# Altium schematic symbol library MU_MP_39_V1.SCHLIB: 148 symbols (part 1 of 2)
Pins are listed as number, name and electrical type; pins without a type are passive.

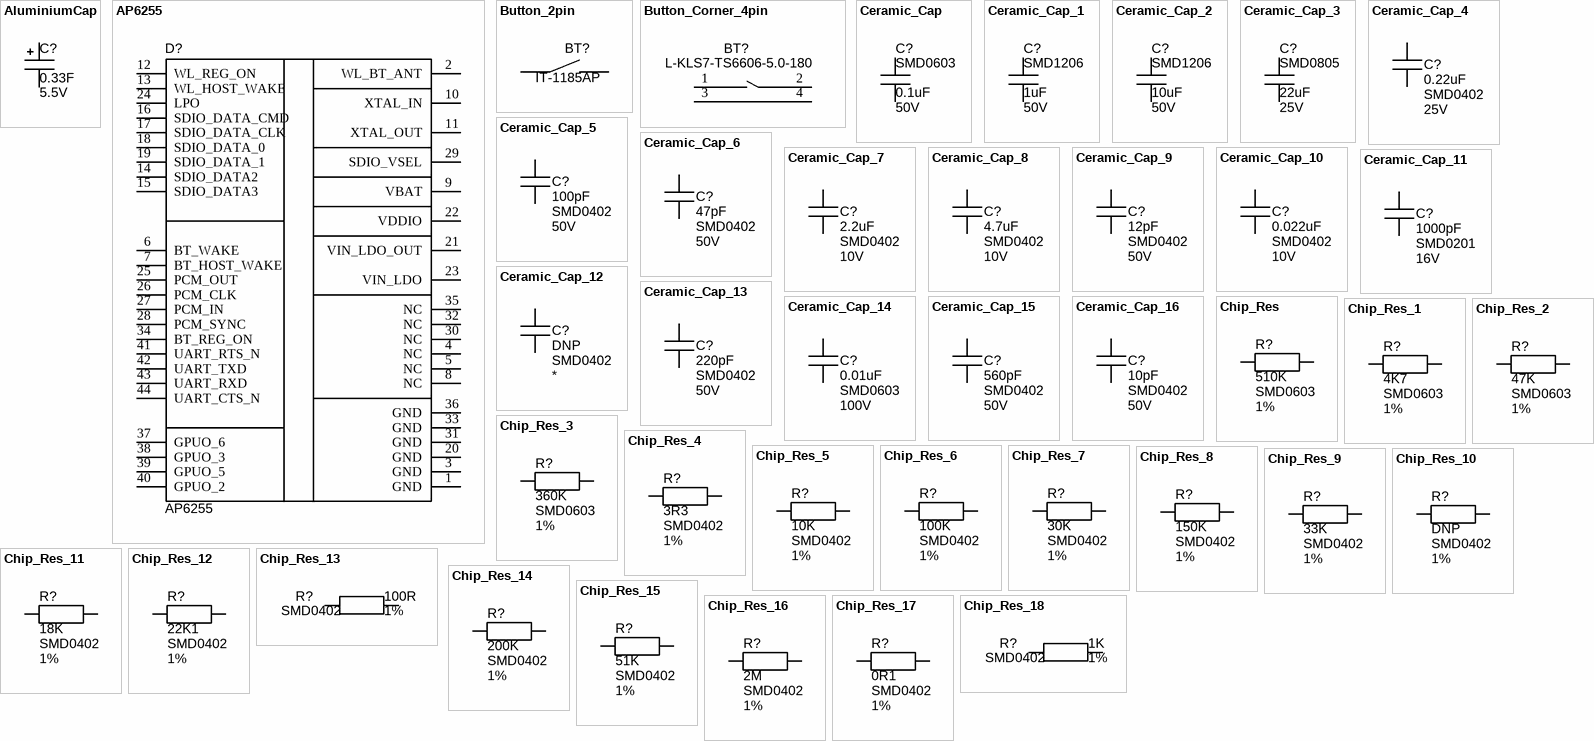
[diagram p0: symbols AluminiumCap to Chip_Res_18]

## AluminiumCap
designator C?, comment Voltage: 5.5V  (hidden comment: 0.33F)
PartNumber: DCS5R5334HF; Tolerance: ±20%; Manufacturer: *; Package: DCS5R5_H; ComponentType: *; ClassName: *; Value: 0.33F
footprint CAP: D5C2H11
footprint CAP: D6.3C2.5H11
footprint CAP: D6.3C2.5H16
footprint CAP: D8C3.5H12
footprint CAP: D10C5H12.5
footprint CAP: D10C5H16
footprint CAP: D10C5H20
footprint CAP: D13C5H20
footprint CAP: D13C5H25
footprint CAP: D16C7.5H25
footprint CAP: D16C7.5H31.5
footprint CAP: D18C7.5H40
footprint CAP: D22C10H25
footprint CAP: D25C10H50
footprint CAP: D30C10H37
footprint CAP: D30C10.5H47
footprint CAP: D35C10H40
footprint CAP: D35C10.5H50
footprint CAP: D18C7.5H25
footprint DCS5R5_H
pins: 1 (power), 2 (power)

## AP6255
designator D?
ComponentType: SMD Chip Resistor; Manufacter: *; Voltage: *; ClassName: *; Tolerance: *; PartNumber: AP6255; Package: AP6255; Value: AP6255
footprint AP6255
pins: 1 GND, 2 WL_BT_ANT, 3 GND, 4 NC, 5 NC, 6 BT_WAKE, 7 BT_HOST_WAKE, 8 NC, 9 VBAT, 10 XTAL_IN, 11 XTAL_OUT, 12 WL_REG_ON, 13 WL_HOST_WAKE, 14 SDIO_DATA2, 15 SDIO_DATA3, 16 SDIO_DATA_CMD, 17 SDIO_DATA_CLK, 18 SDIO_DATA_0, 19 SDIO_DATA_1, 20 GND, 21 VIN_LDO_OUT, 22 VDDIO, 23 VIN_LDO, 24 LPO, 25 PCM_OUT, 26 PCM_CLK, 27 PCM_IN, 28 PCM_SYNC, 29 SDIO_VSEL, 30 NC, 31 GND, 32 NC, 33 GND, 34 BT_REG_ON, 35 NC, 36 GND, 37 GPUO_6, 38 GPUO_3, 39 GPUO_5, 40 GPUO_2, 41 UART_RTS_N, 42 UART_TXD, 43 UART_RXD, 44 UART_CTS_N

## Button_2pin
designator BT?, comment IT-1185AP
ComponentType: *; Manufacter: *; Package: IT-1185AP; PartNumber: IT-1185AP; ClassName: *; Value: IT-1185AP
footprint IT-1185AP (Tact switch 3x5 mm)
pins: 1, 2

## Button_Corner_4pin
designator BT?, comment L-KLS7-TS6606-5.0-180
ComponentType: *; Manufacter: *; Package: L-KLS7-TS6606-5.0-180; PartNumber: L-KLS7-TS6606-5.0-180; ClassName: *; Value: L-KLS7-TS6606-5.0-180
footprint L-KLS7-TS6606-5.0-180
pins: 1, 2, 3, 4

## Ceramic_Cap
designator C?, comment Package: SMD0603  Voltage: 50V  (hidden comment: 0.1uF)
PartNumber: CC0603KRX7R9BB104; ComponentType: SMD Ceramic Chip Capacitor; Manufacter: *; Tolerance: *; ClassName: *; Value: 0.1uF
footprint CAP_SMD_0603
footprint CAP_SMD_0805
footprint CAP_SMD_1206
pins: 1 (power), 2 (power)

## Ceramic_Cap_1
designator C?, comment Package: SMD1206  Voltage: 50V  (hidden comment: 1uF)
PartNumber: CC1206MRY5V9BB105; ComponentType: SMD Ceramic Chip Capacitor; Manufacter: *; Tolerance: *; ClassName: *; Value: 1uF
footprint CAP_SMD_0603
footprint CAP_SMD_0805
footprint CAP_SMD_1206
pins: 1 (power), 2 (power)

## Ceramic_Cap_2
designator C?, comment Package: SMD1206  Voltage: 50V  (hidden comment: 10uF)
PartNumber: CL31B106KBHNNNE; ComponentType: SMD Ceramic Chip Capacitor; Manufacter: *; Tolerance: *; ClassName: *; Value: 10uF
footprint CAP_SMD_0603
footprint CAP_SMD_0805
footprint CAP_SMD_1206
pins: 1 (power), 2 (power)

## Ceramic_Cap_3
designator C?, comment Package: SMD0805  Voltage: 25V  (hidden comment: 22uF)
PartNumber: CC0805MKX5R8BB226; ComponentType: SMD Ceramic Chip Capacitor; Manufacter: *; Tolerance: *; ClassName: *; Value: 22uF
footprint CAP_SMD_0603
footprint CAP_SMD_0805
footprint CAP_SMD_1206
pins: 1 (power), 2 (power)

## Ceramic_Cap_4
designator C?, comment Package: SMD0402  Voltage: 25V  (hidden comment: 0.22uF)
PartNumber: CC0402KRX5R8BB224; ComponentType: SMD Ceramic Chip Capacitor; Manufacter: *; Tolerance: *; ClassName: *; Value: 0.22uF
footprint CAP_SMD_0603
footprint CAP_SMD_0805
footprint CAP_SMD_1206
footprint CAP_SMD_0402
pins: 1 (power), 2 (power)

## Ceramic_Cap_5
designator C?, comment Package: SMD0402  Voltage: 50V  (hidden comment: 100pF)
PartNumber: CC0402KRNPO9BN101; ComponentType: SMD Ceramic Chip Capacitor; Manufacter: *; Tolerance: *; ClassName: *; Value: 100pF
footprint CAP_SMD_0603
footprint CAP_SMD_0805
footprint CAP_SMD_1206
footprint CAP_SMD_0402
pins: 1 (power), 2 (power)

## Ceramic_Cap_6
designator C?, comment Package: SMD0402  Voltage: 50V  (hidden comment: 47pF)
PartNumber: CC0402FRNPO9BN470; ComponentType: SMD Ceramic Chip Capacitor; Manufacter: *; Tolerance: *; ClassName: *; Value: 47pF
footprint CAP_SMD_0603
footprint CAP_SMD_0805
footprint CAP_SMD_1206
footprint CAP_SMD_0402
pins: 1 (power), 2 (power)

## Ceramic_Cap_7
designator C?, comment Package: SMD0402  Voltage: 10V  (hidden comment: 2.2uF)
PartNumber: CC0402KRX5R6BB225; ComponentType: SMD Ceramic Chip Capacitor; Manufacter: *; Tolerance: *; ClassName: *; Value: 2.2uF
footprint CAP_SMD_0603
footprint CAP_SMD_0805
footprint CAP_SMD_1206
footprint CAP_SMD_0402
pins: 1 (power), 2 (power)

## Ceramic_Cap_8
designator C?, comment Package: SMD0402  Voltage: 10V  (hidden comment: 4.7uF)
PartNumber: CL05A475KP5NRNC; ComponentType: SMD Ceramic Chip Capacitor; Manufacter: *; Tolerance: *; ClassName: *; Value: 4.7uF
footprint CAP_SMD_0603
footprint CAP_SMD_0805
footprint CAP_SMD_1206
footprint CAP_SMD_0402
pins: 1 (power), 2 (power)

## Ceramic_Cap_9
designator C?, comment Package: SMD0402  Voltage: 50V  (hidden comment: 12pF)
PartNumber: CC0402JRNPO9BN120; ComponentType: SMD Ceramic Chip Capacitor; Manufacter: *; Tolerance: *; ClassName: *; Value: 12pF
footprint CAP_SMD_0603
footprint CAP_SMD_0805
footprint CAP_SMD_1206
footprint CAP_SMD_0402
pins: 1 (power), 2 (power)

## Ceramic_Cap_10
designator C?, comment Package: SMD0402  Voltage: 10V  (hidden comment: 0.022uF)
PartNumber: GRM155R61A223KA01D; ComponentType: SMD Ceramic Chip Capacitor; Manufacter: *; Tolerance: *; ClassName: *; Value: 0.022uF
footprint CAP_SMD_0603
footprint CAP_SMD_0805
footprint CAP_SMD_1206
footprint CAP_SMD_0402
pins: 1 (power), 2 (power)

## Ceramic_Cap_11
designator C?, comment Package: SMD0201  Voltage: 16V  (hidden comment: 1000pF)
PartNumber: CC0201KRX7R7BB102; ComponentType: SMD Ceramic Chip Capacitor; Manufacter: *; Tolerance: *; ClassName: *; Value: 1000pF
footprint CAP_SMD_0603
footprint CAP_SMD_0805
footprint CAP_SMD_1206
footprint CAP_SMD_0402
footprint CAP_SMD_0201
pins: 1 (power), 2 (power)

## Ceramic_Cap_12
designator C?, comment Package: SMD0402  (hidden comment: DNP)
PartNumber: Do Not Place; ComponentType: SMD Ceramic Chip Capacitor; Manufacter: *; Tolerance: *; ClassName: Solder_Clearence; Value: DNP; Voltage: *
footprint CAP_SMD_0603
footprint CAP_SMD_0805
footprint CAP_SMD_1206
footprint CAP_SMD_0402
footprint CAP_SMD_0402_small
pins: 1 (power), 2 (power)

## Ceramic_Cap_13
designator C?, comment Package: SMD0402  Voltage: 50V  (hidden comment: 220pF)
PartNumber: CC0402JRNPO9BN221; ComponentType: SMD Ceramic Chip Capacitor; Manufacter: *; Tolerance: *; ClassName: *; Value: 220pF
footprint CAP_SMD_0603
footprint CAP_SMD_0805
footprint CAP_SMD_1206
footprint CAP_SMD_0402
pins: 1 (power), 2 (power)

## Ceramic_Cap_14
designator C?, comment Package: SMD0603  Voltage: 100V  (hidden comment: 0.01uF)
PartNumber: CC0603KRX7R0BB103; ComponentType: SMD Ceramic Chip Capacitor; Manufacter: *; Tolerance: *; ClassName: *; Value: 0.01uF
footprint CAP_SMD_0603
footprint CAP_SMD_0805
footprint CAP_SMD_1206
pins: 1 (power), 2 (power)

## Ceramic_Cap_15
designator C?, comment Package: SMD0402  Voltage: 50V  (hidden comment: 560pF)
PartNumber: CC0402JRX7R9BB561; ComponentType: SMD Ceramic Chip Capacitor; Manufacter: *; Tolerance: *; ClassName: *; Value: 560pF
footprint CAP_SMD_0603
footprint CAP_SMD_0805
footprint CAP_SMD_1206
footprint CAP_SMD_0402
pins: 1 (power), 2 (power)

## Ceramic_Cap_16
designator C?, comment Package: SMD0402  Voltage: 50V  (hidden comment: 10pF)
PartNumber: CC0402CRNPO9BN100; ComponentType: SMD Ceramic Chip Capacitor; Manufacter: *; Tolerance: *; ClassName: *; Value: 10pF
footprint CAP_SMD_0603
footprint CAP_SMD_0805
footprint CAP_SMD_1206
footprint CAP_SMD_0402
pins: 1 (power), 2 (power)

## Chip_Res
designator R?, comment Package: SMD0603  Tolerance: 1%  (hidden comment: 510K)
PartNumber: RC0603FR-07510KL; ComponentType: SMD Chip Resistor; Manufacter: *; Voltage: *; ClassName: *; Value: 510K
footprint RES_SMD_0603
footprint RES_SMD_0805
footprint RES_SMD_1206
footprint RES_SMD_2512
footprint RES_SMD_0402
pins: 1, 2

## Chip_Res_1
designator R?, comment Package: SMD0603  Tolerance: 1%  (hidden comment: 4K7)
PartNumber: RC0603FR-074K7L; ComponentType: SMD Chip Resistor; Manufacter: *; Voltage: *; ClassName: *; Value: 4K7
footprint RES_SMD_0603
footprint RES_SMD_0805
footprint RES_SMD_1206
footprint RES_SMD_2512
footprint RES_SMD_0402
pins: 1, 2

## Chip_Res_2
designator R?, comment Package: SMD0603  Tolerance: 1%  (hidden comment: 47K)
PartNumber: RC0603FR-0747KL; ComponentType: SMD Chip Resistor; Manufacter: *; Voltage: *; ClassName: *; Value: 47K
footprint RES_SMD_0603
footprint RES_SMD_0805
footprint RES_SMD_1206
footprint RES_SMD_2512
footprint RES_SMD_0402
pins: 1, 2

## Chip_Res_3
designator R?, comment Package: SMD0603  Tolerance: 1%  (hidden comment: 360K)
PartNumber: RC0603FR-07360KL; ComponentType: SMD Chip Resistor; Manufacter: *; Voltage: *; ClassName: *; Value: 360K
footprint RES_SMD_0603
footprint RES_SMD_0805
footprint RES_SMD_1206
footprint RES_SMD_2512
footprint RES_SMD_0402
pins: 1, 2

## Chip_Res_4
designator R?, comment Package: SMD0402  Tolerance: 1%  (hidden comment: 3R3)
PartNumber: RC0402FR-073R3L; ComponentType: SMD Chip Resistor; Manufacter: *; Voltage: *; ClassName: *; Value: 3R3
footprint RES_SMD_0603
footprint RES_SMD_0805
footprint RES_SMD_1206
footprint RES_SMD_2512
footprint RES_SMD_0402
pins: 1, 2

## Chip_Res_5
designator R?, comment Package: SMD0402  Tolerance: 1%  (hidden comment: 10K)
PartNumber: RC0402FR-0710KL; ComponentType: SMD Chip Resistor; Manufacter: *; Voltage: *; ClassName: *; Value: 10K
footprint RES_SMD_0603
footprint RES_SMD_0805
footprint RES_SMD_1206
footprint RES_SMD_2512
footprint RES_SMD_0402
pins: 1, 2

## Chip_Res_6
designator R?, comment Package: SMD0402  Tolerance: 1%  (hidden comment: 100K)
PartNumber: RC0402FR-07100KL; ComponentType: SMD Chip Resistor; Manufacter: *; Voltage: *; ClassName: *; Value: 100K
footprint RES_SMD_0603
footprint RES_SMD_0805
footprint RES_SMD_1206
footprint RES_SMD_2512
footprint RES_SMD_0402
pins: 1, 2

## Chip_Res_7
designator R?, comment Package: SMD0402  Tolerance: 1%  (hidden comment: 30K)
PartNumber: RC0402FR-0730KL; ComponentType: SMD Chip Resistor; Manufacter: *; Voltage: *; ClassName: *; Value: 30K
footprint RES_SMD_0603
footprint RES_SMD_0805
footprint RES_SMD_1206
footprint RES_SMD_2512
footprint RES_SMD_0402
pins: 1, 2

## Chip_Res_8
designator R?, comment Package: SMD0402  Tolerance: 1%  (hidden comment: 150K)
PartNumber: RC0402FR-07150KL; ComponentType: SMD Chip Resistor; Manufacter: *; Voltage: *; ClassName: *; Value: 150K
footprint RES_SMD_0603
footprint RES_SMD_0805
footprint RES_SMD_1206
footprint RES_SMD_2512
footprint RES_SMD_0402
pins: 1, 2

## Chip_Res_9
designator R?, comment Package: SMD0402  Tolerance: 1%  (hidden comment: 33K)
PartNumber: RC0402FR-0733KL; ComponentType: SMD Chip Resistor; Manufacter: *; Voltage: *; ClassName: *; Value: 33K
footprint RES_SMD_0603
footprint RES_SMD_0805
footprint RES_SMD_1206
footprint RES_SMD_2512
footprint RES_SMD_0402
pins: 1, 2

## Chip_Res_10
designator R?, comment Package: SMD0402  Tolerance: 1%  (hidden comment: DNP)
PartNumber: Do Not Place; ComponentType: SMD Chip Resistor; Manufacter: *; Voltage: *; ClassName: *; Value: DNP
footprint RES_SMD_0603
footprint RES_SMD_0805
footprint RES_SMD_1206
footprint RES_SMD_2512
footprint RES_SMD_0402
pins: 1, 2

## Chip_Res_11
designator R?, comment Package: SMD0402  Tolerance: 1%  (hidden comment: 18K)
PartNumber: RC0402FR-0718KL; ComponentType: SMD Chip Resistor; Manufacter: *; Voltage: *; ClassName: *; Value: 18K
footprint RES_SMD_0603
footprint RES_SMD_0805
footprint RES_SMD_1206
footprint RES_SMD_2512
footprint RES_SMD_0402
pins: 1, 2

## Chip_Res_12
designator R?, comment Package: SMD0402  Tolerance: 1%  (hidden comment: 22K1)
PartNumber: RC0402FR-0722K1L; ComponentType: SMD Chip Resistor; Manufacter: *; Voltage: *; ClassName: *; Value: 22K1
footprint RES_SMD_0603
footprint RES_SMD_0805
footprint RES_SMD_1206
footprint RES_SMD_2512
footprint RES_SMD_0402
pins: 1, 2

## Chip_Res_13
designator R?, comment Package: SMD0402  Tolerance: 1%  (hidden comment: 100R)
PartNumber: RC0402FR-07100RL; ComponentType: SMD Chip Resistor; Manufacter: *; Voltage: *; ClassName: *; Value: 100R
footprint RES_SMD_0603
footprint RES_SMD_0805
footprint RES_SMD_1206
footprint RES_SMD_2512
footprint RES_SMD_0402
pins: 1, 2

## Chip_Res_14
designator R?, comment Package: SMD0402  Tolerance: 1%  (hidden comment: 200K)
PartNumber: RC0402FR-07200KL; ComponentType: SMD Chip Resistor; Manufacter: *; Voltage: *; ClassName: *; Value: 200K
footprint RES_SMD_0603
footprint RES_SMD_0805
footprint RES_SMD_1206
footprint RES_SMD_2512
footprint RES_SMD_0402
pins: 1, 2

## Chip_Res_15
designator R?, comment Package: SMD0402  Tolerance: 1%  (hidden comment: 51K)
PartNumber: RC0402FR-0751KL; ComponentType: SMD Chip Resistor; Manufacter: *; Voltage: *; ClassName: *; Value: 51K
footprint RES_SMD_0603
footprint RES_SMD_0805
footprint RES_SMD_1206
footprint RES_SMD_2512
footprint RES_SMD_0402
pins: 1, 2

## Chip_Res_16
designator R?, comment Package: SMD0402  Tolerance: 1%  (hidden comment: 2M)
PartNumber: RC0402FR-072ML; ComponentType: SMD Chip Resistor; Manufacter: *; Voltage: *; ClassName: *; Value: 2M
footprint RES_SMD_0603
footprint RES_SMD_0805
footprint RES_SMD_1206
footprint RES_SMD_2512
footprint RES_SMD_0402
pins: 1, 2

## Chip_Res_17
designator R?, comment Package: SMD0402  Tolerance: 1%  (hidden comment: 0R1)
PartNumber: RL0402FR-070R1L; ComponentType: SMD Chip Resistor; Manufacter: *; Voltage: *; ClassName: *; Value: 0R1
footprint RES_SMD_0603
footprint RES_SMD_0805
footprint RES_SMD_1206
footprint RES_SMD_2512
footprint RES_SMD_0402
pins: 1, 2

## Chip_Res_18
designator R?, comment Package: SMD0402  Tolerance: 1%  (hidden comment: 1K)
PartNumber: RC0402FR-071KL; ComponentType: SMD Chip Resistor; Manufacter: *; Voltage: *; ClassName: *; Value: 1K
footprint RES_SMD_0603
footprint RES_SMD_0805
footprint RES_SMD_1206
footprint RES_SMD_2512
footprint RES_SMD_0402
pins: 1, 2

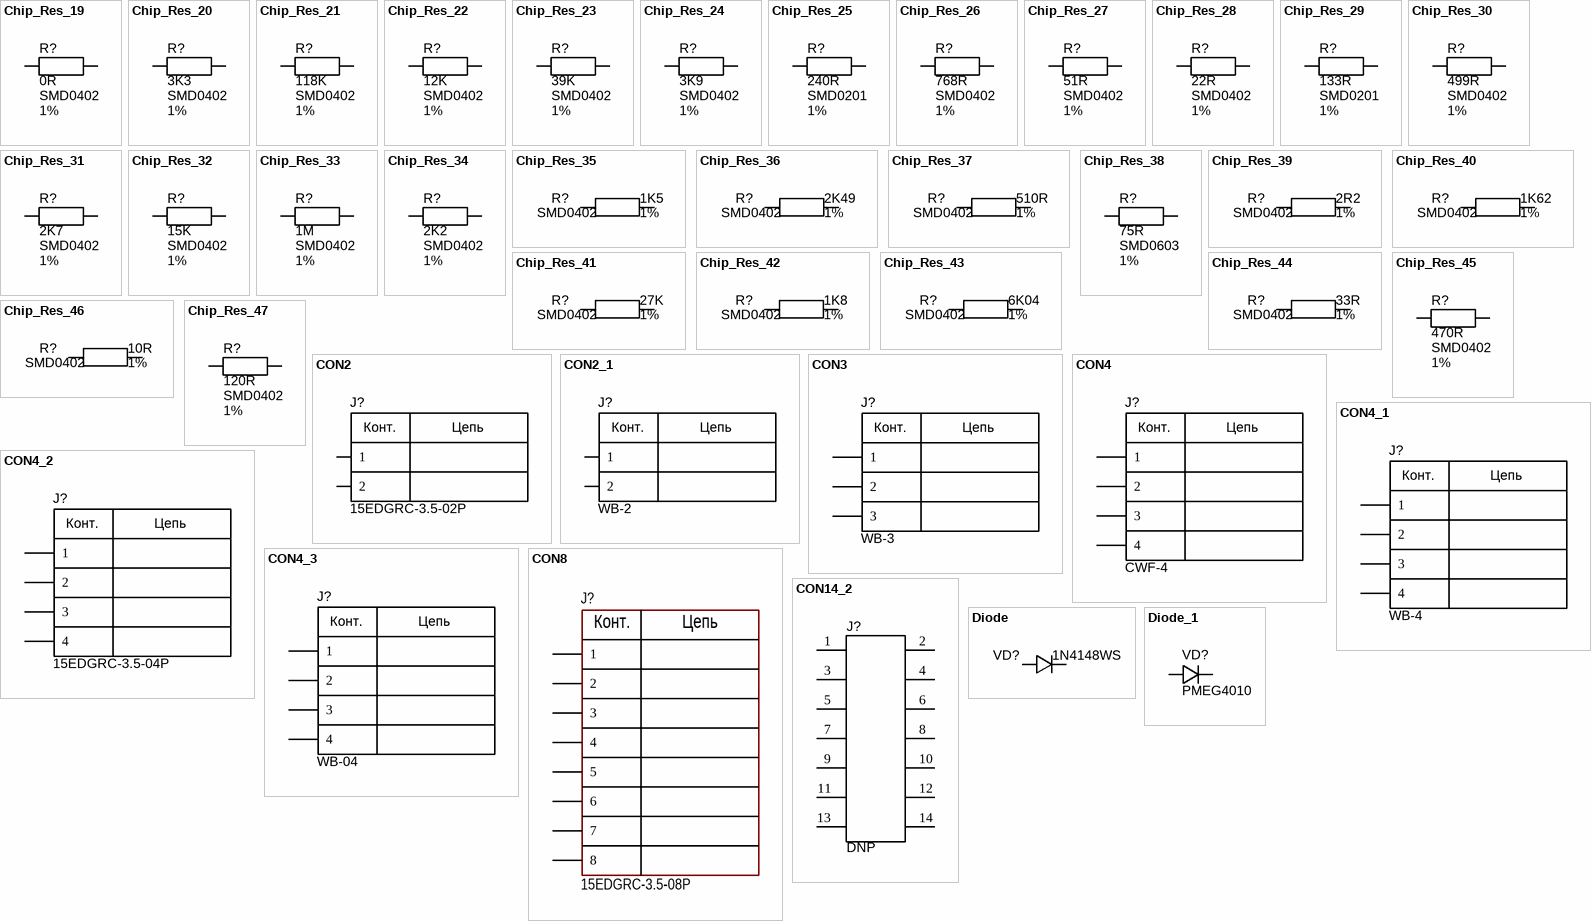
[diagram p1: symbols Chip_Res_19 to Diode_1]

## Chip_Res_19
designator R?, comment Package: SMD0402  Tolerance: 1%  (hidden comment: 0R)
PartNumber: RC0402FR-070RL; ComponentType: SMD Chip Resistor; Manufacter: *; Voltage: *; ClassName: *; Value: 0R
footprint RES_SMD_0603
footprint RES_SMD_0805
footprint RES_SMD_1206
footprint RES_SMD_2512
footprint RES_SMD_0402
pins: 1, 2

## Chip_Res_20
designator R?, comment Package: SMD0402  Tolerance: 1%  (hidden comment: 3K3)
PartNumber: RC0402FR-073K3L; ComponentType: SMD Chip Resistor; Manufacter: *; Voltage: *; ClassName: *; Value: 3K3
footprint RES_SMD_0603
footprint RES_SMD_0805
footprint RES_SMD_1206
footprint RES_SMD_2512
footprint RES_SMD_0402
pins: 1, 2

## Chip_Res_21
designator R?, comment Package: SMD0402  Tolerance: 1%  (hidden comment: 118K)
PartNumber: RC0402FR-07118KL; ComponentType: SMD Chip Resistor; Manufacter: *; Voltage: *; ClassName: *; Value: 118K
footprint RES_SMD_0603
footprint RES_SMD_0805
footprint RES_SMD_1206
footprint RES_SMD_2512
footprint RES_SMD_0402
pins: 1, 2

## Chip_Res_22
designator R?, comment Package: SMD0402  Tolerance: 1%  (hidden comment: 12K)
PartNumber: RC0402FR-0712KL; ComponentType: SMD Chip Resistor; Manufacter: *; Voltage: *; ClassName: *; Value: 12K
footprint RES_SMD_0603
footprint RES_SMD_0805
footprint RES_SMD_1206
footprint RES_SMD_2512
footprint RES_SMD_0402
pins: 1, 2

## Chip_Res_23
designator R?, comment Package: SMD0402  Tolerance: 1%  (hidden comment: 39K)
PartNumber: RC0402FR-0739KL; ComponentType: SMD Chip Resistor; Manufacter: *; Voltage: *; ClassName: *; Value: 39K
footprint RES_SMD_0603
footprint RES_SMD_0805
footprint RES_SMD_1206
footprint RES_SMD_2512
footprint RES_SMD_0402
pins: 1, 2

## Chip_Res_24
designator R?, comment Package: SMD0402  Tolerance: 1%  (hidden comment: 3K9)
PartNumber: RC0402FR-073K9L; ComponentType: SMD Chip Resistor; Manufacter: *; Voltage: *; ClassName: *; Value: 3K9
footprint RES_SMD_0603
footprint RES_SMD_0805
footprint RES_SMD_1206
footprint RES_SMD_2512
footprint RES_SMD_0402
pins: 1, 2

## Chip_Res_25
designator R?, comment Package: SMD0201  Tolerance: 1%  (hidden comment: 240R)
PartNumber: RC0201FR-07240RL; ComponentType: SMD Chip Resistor; Manufacter: *; Voltage: *; ClassName: *; Value: 240R
footprint RES_SMD_0603
footprint RES_SMD_0805
footprint RES_SMD_1206
footprint RES_SMD_2512
footprint RES_SMD_0402
footprint RES_SMD_0201
pins: 1, 2

## Chip_Res_26
designator R?, comment Package: SMD0402  Tolerance: 1%  (hidden comment: 768R)
PartNumber: RC0402FR-07768RL; ComponentType: SMD Chip Resistor; Manufacter: *; Voltage: *; ClassName: Solder_Clearence; Value: 768R
footprint RES_SMD_0603
footprint RES_SMD_0805
footprint RES_SMD_1206
footprint RES_SMD_2512
footprint RES_SMD_0402
footprint RES_SMD_0402_SMALL
pins: 1, 2

## Chip_Res_27
designator R?, comment Package: SMD0402  Tolerance: 1%  (hidden comment: 51R)
PartNumber: RC0402FR-0751RL; ComponentType: SMD Chip Resistor; Manufacter: *; Voltage: *; ClassName: Solder_Clearence; Value: 51R
footprint RES_SMD_0603
footprint RES_SMD_0805
footprint RES_SMD_1206
footprint RES_SMD_2512
footprint RES_SMD_0402
footprint RES_SMD_0402_SMALL
pins: 1, 2

## Chip_Res_28
designator R?, comment Package: SMD0402  Tolerance: 1%  (hidden comment: 22R)
PartNumber: RC0402FR-0722RL; ComponentType: SMD Chip Resistor; Manufacter: *; Voltage: *; ClassName: Solder_Clearence; Value: 22R
footprint RES_SMD_0603
footprint RES_SMD_0805
footprint RES_SMD_1206
footprint RES_SMD_2512
footprint RES_SMD_0402
footprint RES_SMD_0402_SMALL
pins: 1, 2

## Chip_Res_29
designator R?, comment Package: SMD0201  Tolerance: 1%  (hidden comment: 133R)
PartNumber: RC0201FR-07133RL; ComponentType: SMD Chip Resistor; Manufacter: *; Voltage: *; ClassName: *; Value: 133R
footprint RES_SMD_0603
footprint RES_SMD_0805
footprint RES_SMD_1206
footprint RES_SMD_2512
footprint RES_SMD_0402
footprint RES_SMD_0201
pins: 1, 2

## Chip_Res_30
designator R?, comment Package: SMD0402  Tolerance: 1%  (hidden comment: 499R)
PartNumber: RC0402FR-07499RL; ComponentType: SMD Chip Resistor; Manufacter: *; Voltage: *; ClassName: Solder_Clearence; Value: 499R
footprint RES_SMD_0603
footprint RES_SMD_0805
footprint RES_SMD_1206
footprint RES_SMD_2512
footprint RES_SMD_0402
footprint RES_SMD_0402_SMALL
pins: 1, 2

## Chip_Res_31
designator R?, comment Package: SMD0402  Tolerance: 1%  (hidden comment: 2K7)
PartNumber: RC0402FR-072K7L; ComponentType: SMD Chip Resistor; Manufacter: *; Voltage: *; ClassName: *; Value: 2K7
footprint RES_SMD_0603
footprint RES_SMD_0805
footprint RES_SMD_1206
footprint RES_SMD_2512
footprint RES_SMD_0402
pins: 1, 2

## Chip_Res_32
designator R?, comment Package: SMD0402  Tolerance: 1%  (hidden comment: 15K)
PartNumber: RC0402FR-0715KL; ComponentType: SMD Chip Resistor; Manufacter: *; Voltage: *; ClassName: *; Value: 15K
footprint RES_SMD_0603
footprint RES_SMD_0805
footprint RES_SMD_1206
footprint RES_SMD_2512
footprint RES_SMD_0402
pins: 1, 2

## Chip_Res_33
designator R?, comment Package: SMD0402  Tolerance: 1%  (hidden comment: 1M)
PartNumber: RC0402FR-071ML; ComponentType: SMD Chip Resistor; Manufacter: *; Voltage: *; ClassName: *; Value: 1M
footprint RES_SMD_0603
footprint RES_SMD_0805
footprint RES_SMD_1206
footprint RES_SMD_2512
footprint RES_SMD_0402
pins: 1, 2

## Chip_Res_34
designator R?, comment Package: SMD0402  Tolerance: 1%  (hidden comment: 2K2)
PartNumber: RC0402FR-072K2L; ComponentType: SMD Chip Resistor; Manufacter: *; Voltage: *; ClassName: *; Value: 2K2
footprint RES_SMD_0603
footprint RES_SMD_0805
footprint RES_SMD_1206
footprint RES_SMD_2512
footprint RES_SMD_0402
pins: 1, 2

## Chip_Res_35
designator R?, comment Package: SMD0402  Tolerance: 1%  (hidden comment: 1K5)
PartNumber: RC0402FR-071K5L; ComponentType: SMD Chip Resistor; Manufacter: *; Voltage: *; ClassName: *; Value: 1K5
footprint RES_SMD_0603
footprint RES_SMD_0805
footprint RES_SMD_1206
footprint RES_SMD_2512
footprint RES_SMD_0402
pins: 1, 2

## Chip_Res_36
designator R?, comment Package: SMD0402  Tolerance: 1%  (hidden comment: 2K49)
PartNumber: RC0402FR-072K49L; ComponentType: SMD Chip Resistor; Manufacter: *; Voltage: *; ClassName: *; Value: 2K49
footprint RES_SMD_0603
footprint RES_SMD_0805
footprint RES_SMD_1206
footprint RES_SMD_2512
footprint RES_SMD_0402
pins: 1, 2

## Chip_Res_37
designator R?, comment Package: SMD0402  Tolerance: 1%  (hidden comment: 510R)
PartNumber: RC0402FR-07510RL; ComponentType: SMD Chip Resistor; Manufacter: *; Voltage: *; ClassName: *; Value: 510R
footprint RES_SMD_0603
footprint RES_SMD_0805
footprint RES_SMD_1206
footprint RES_SMD_2512
footprint RES_SMD_0402
pins: 1, 2

## Chip_Res_38
designator R?, comment Package: SMD0603  Tolerance: 1%  (hidden comment: 75R)
PartNumber: RC0603FR-0775RL; ComponentType: SMD Chip Resistor; Manufacter: *; Voltage: *; ClassName: *; Value: 75R
footprint RES_SMD_0603
footprint RES_SMD_0805
footprint RES_SMD_1206
footprint RES_SMD_2512
footprint RES_SMD_0402
pins: 1, 2

## Chip_Res_39
designator R?, comment Package: SMD0402  Tolerance: 1%  (hidden comment: 2R2)
PartNumber: RC0402FR-072R2L; ComponentType: SMD Chip Resistor; Manufacter: *; Voltage: *; ClassName: *; Value: 2R2
footprint RES_SMD_0603
footprint RES_SMD_0805
footprint RES_SMD_1206
footprint RES_SMD_2512
footprint RES_SMD_0402
pins: 1, 2

## Chip_Res_40
designator R?, comment Package: SMD0402  Tolerance: 1%  (hidden comment: 1K62)
PartNumber: RC0402FR-071K62L; ComponentType: SMD Chip Resistor; Manufacter: *; Voltage: *; ClassName: Solder_Clearence; Value: 1K62
footprint RES_SMD_0603
footprint RES_SMD_0805
footprint RES_SMD_1206
footprint RES_SMD_2512
footprint RES_SMD_0402
footprint RES_SMD_0402_SMALL
pins: 1, 2

## Chip_Res_41
designator R?, comment Package: SMD0402  Tolerance: 1%  (hidden comment: 27K)
PartNumber: RC0402FR-0727KL; ComponentType: SMD Chip Resistor; Manufacter: *; Voltage: *; ClassName: *; Value: 27K
footprint RES_SMD_0603
footprint RES_SMD_0805
footprint RES_SMD_1206
footprint RES_SMD_2512
footprint RES_SMD_0402
pins: 1, 2

## Chip_Res_42
designator R?, comment Package: SMD0402  Tolerance: 1%  (hidden comment: 1K8)
PartNumber: RC0402FR-071K8L; ComponentType: SMD Chip Resistor; Manufacter: *; Voltage: *; ClassName: *; Value: 1K8
footprint RES_SMD_0603
footprint RES_SMD_0805
footprint RES_SMD_1206
footprint RES_SMD_2512
footprint RES_SMD_0402
pins: 1, 2

## Chip_Res_43
designator R?, comment Package: SMD0402  Tolerance: 1%  (hidden comment: 6K04)
PartNumber: RC0402FR-076K04L; ComponentType: SMD Chip Resistor; Manufacter: *; Voltage: *; ClassName: *; Value: 6K04
footprint RES_SMD_0603
footprint RES_SMD_0805
footprint RES_SMD_1206
footprint RES_SMD_2512
footprint RES_SMD_0402
pins: 1, 2

## Chip_Res_44
designator R?, comment Package: SMD0402  Tolerance: 1%  (hidden comment: 33R)
PartNumber: RC0402FR-0733RL; ComponentType: SMD Chip Resistor; Manufacter: *; Voltage: *; ClassName: *; Value: 33R
footprint RES_SMD_0603
footprint RES_SMD_0805
footprint RES_SMD_1206
footprint RES_SMD_2512
footprint RES_SMD_0402
pins: 1, 2

## Chip_Res_45
designator R?, comment Package: SMD0402  Tolerance: 1%  (hidden comment: 470R)
PartNumber: RC0402FR-07470RL; ComponentType: SMD Chip Resistor; Manufacter: *; Voltage: *; ClassName: *; Value: 470R
footprint RES_SMD_0603
footprint RES_SMD_0805
footprint RES_SMD_1206
footprint RES_SMD_2512
footprint RES_SMD_0402
pins: 1, 2

## Chip_Res_46
designator R?, comment Package: SMD0402  Tolerance: 1%  (hidden comment: 10R)
PartNumber: RC0402FR-0710RL; ComponentType: SMD Chip Resistor; Manufacter: *; Voltage: *; ClassName: *; Value: 10R
footprint RES_SMD_0603
footprint RES_SMD_0805
footprint RES_SMD_1206
footprint RES_SMD_2512
footprint RES_SMD_0402
pins: 1, 2

## Chip_Res_47
designator R?, comment Package: SMD0402  Tolerance: 1%  (hidden comment: 120R)
PartNumber: RC0402FR-07120RL; ComponentType: SMD Chip Resistor; Manufacter: *; Voltage: *; ClassName: *; Value: 120R
footprint RES_SMD_0603
footprint RES_SMD_0805
footprint RES_SMD_1206
footprint RES_SMD_2512
footprint RES_SMD_0402
pins: 1, 2

## CON2
designator J?, comment 15EDGRC-3.5-02P
ComponentType: *; Manufacter: *; Package: 15EDGRC-3.5-02P; PartNumber: 15EDGRC-3.5-02P; ClassName: *; Value: 15EDGRC-3.5-02P
footprint 15EDGRC-3.5-02P
pins: 1, 2
text: Конт.; Цепь

## CON2_1
designator J?, comment WB-2
PartNumber: DS1066-02M(MW-2M); ComponentType: *; Manufacter: *; Package: WB-2; ClassName: *; Value: WB-2
footprint WB-2
pins: 1, 2
text: Конт.; Цепь

## CON3
designator J?, comment WB-3
PartNumber: DS1066-03M(MW-3M); Manufacter: *; Package: WB-3; ClassName: *; Value: WB-3
footprint WB-3
pins: 1, 2, 3 (power)
text: Конт.; Цепь

## CON4
designator J?, comment CWF-4
PartNumber: DS1069-4MVW6X (CWF-4); Manufacter: *; Package: CWF-4; ClassName: *; Value: CWF-4
footprint CWF-4
pins: 1, 2, 3 (power), 4 (power)
text: Конт.; Цепь

## CON4_1
designator J?, comment WB-4
PartNumber: DS1066-04M(MW-4M); Manufacter: *; Package: WB-4; ClassName: *; Value: WB-4
footprint WB-4
pins: 1, 2, 3 (power), 4 (power)
text: Конт.; Цепь

## CON4_2
designator J?, comment 15EDGRC-3.5-04P
Manufacter: *; Package: 15EDGRC-3.5-04P; PartNumber: 15EDGRC-3.5-04P; ClassName: *; Value: 15EDGRC-3.5-04P
footprint WB-4
footprint 15EDGRC-3.5-04P (Body 15.4x9.2mm (15EDGRC-3.5-04P, 1844236))
pins: 1, 2, 3 (power), 4 (power)
text: Конт.; Цепь

## CON4_3
designator J?, comment WB-04
PartNumber: DS1066-04M; Manufacter: *; Package: WB-04; ClassName: *; Value: WB-04
footprint WB-4
footprint WB-04S SMD
pins: 1, 2, 3 (power), 4 (power)
text: Конт.; Цепь

## CON8
designator J?, comment 15EDGRC-3.5-08P
Manufacter: *; Package: 15EDGRC-3.5-08P; PartNumber: 15EDGRC-3.5-08P; ClassName: *; Value: 15EDGRC-3.5-08P
footprint 15EDGRC-3.5-08P
pins: 1, 2, 3 (power), 4 (power), 5 (power), 6 (power), 7 (power), 8 (power)
text: Конт.; Цепь

## CON14_2
designator J?, comment DNP
PartNumber: PLD2-14 (2.00; ComponentType: *; Manufacter: *; Package: PLD2-14 (2.00; ClassName: *; Value: DNP
footprint PLD2-14 (2.00)
pins: 1, 2, 3, 4, 5, 6, 7, 8, 9, 10, 11, 12, 13, 14

## Diode
designator VD?  value 1N4148WS  (hidden comment: Diode)
ComponentType: *; Manufacter: *; Package: SOD323; PartNumber: 1N4148WS; ClassName: *
footprint SOD323
footprint SMC
pins: 1 A, 2 C

## Diode_1
designator VD?, comment value PMEG4010  (hidden comment: Diode)
PartNumber: PMEG4010CEJ.115; ComponentType: *; Manufacter: *; Package: SOD323; ClassName: *
footprint SOD323
footprint SMC
pins: 1 A, 2 C

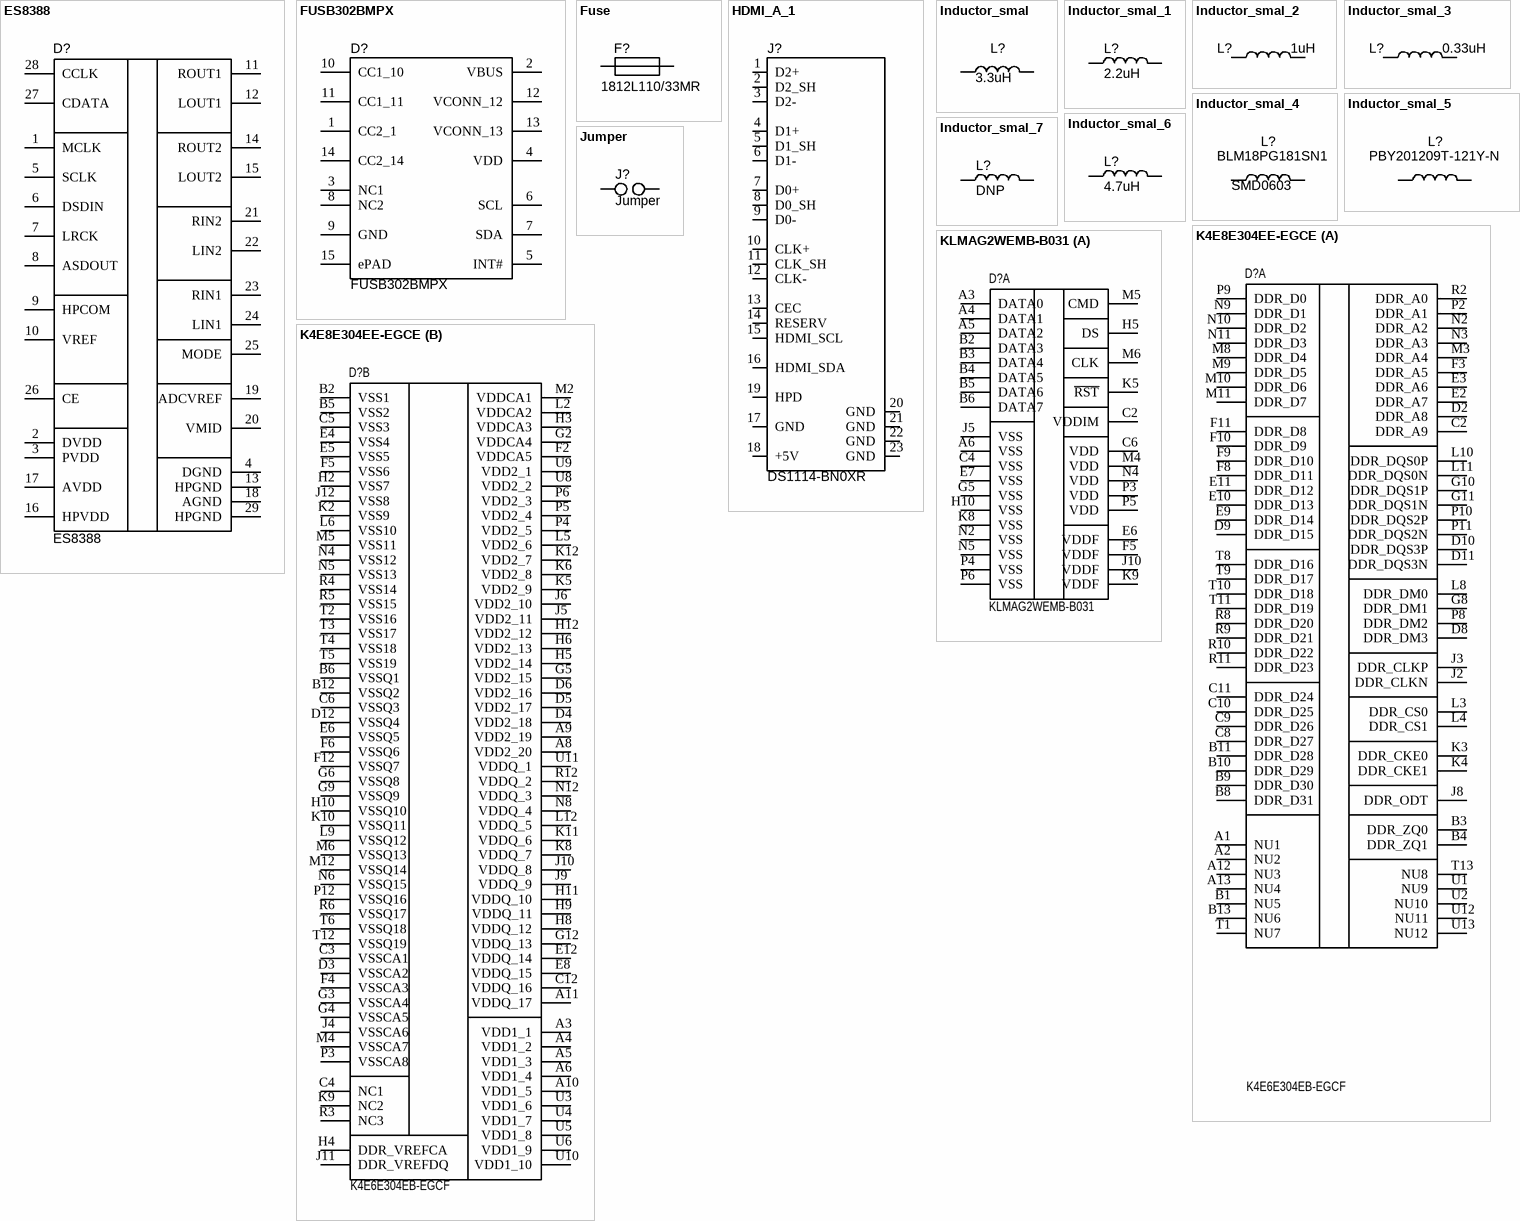
[diagram p2: symbols ES8388 to KLMAG2WEMB-B031]

## ES8388
designator D?
ComponentType: SMD Chip Resistor; Manufacter: *; Voltage: *; ClassName: *; Tolerance: *; PartNumber: ES8388; Package: QFN-28; Value: ES8388
footprint QFN-28 4mmx4mm
pins: 1 MCLK, 2 DVDD, 3 PVDD, 4 DGND, 5 SCLK, 6 DSDIN, 7 LRCK, 8 ASDOUT, 9 HPCOM, 10 VREF, 11 ROUT1, 12 LOUT1, 13 HPGND, 14 ROUT2, 15 LOUT2, 16 HPVDD, 17 AVDD, 18 AGND, 19 ADCVREF, 20 VMID, 21 RIN2, 22 LIN2, 23 RIN1, 24 LIN1, 25 MODE, 26 CE, 27 CDATA, 28 CCLK, 29 HPGND

## FUSB302BMPX
designator D?
ComponentType: SMD Chip Resistor; Manufacter: *; Voltage: *; ClassName: *; Tolerance: *; PartNumber: FUSB302BMPX; Package: WQFN14; Value: FUSB302BMPX
footprint WQFN14
pins: 1 CC2_1, 2 VBUS, 3 NC1, 4 VDD, 5 INT#, 6 SCL, 7 SDA, 8 NC2, 9 GND, 10 CC1_10, 11 CC1_11, 12 VCONN_12, 13 VCONN_13, 14 CC2_14, 15 ePAD

## Fuse
designator F?, comment value 1812L110/33MR  (hidden comment: Value)
ComponentType: *; Manufacter: *; Package: SMD1812; PartNumber: 1812L110/33MR; ClassName: *
footprint FUSE_SMD_2920
footprint FUSE_SMD_1812
pins: 1, 2

## HDMI_A_1
designator J?, comment DS1114-BN0XR
ComponentType: *; Manufacter: *; Package: DS1114-BN0XR; PartNumber: DS1114-BN0XR; ClassName: *; Value: DS1114-BN0XR
footprint DS1114-BN0XR
pins: 1 D2+, 2 D2_SH, 3 D2-, 4 D1+, 5 D1_SH, 6 D1-, 7 D0+, 8 D0_SH, 9 D0-, 10 CLK+, 11 CLK_SH, 12 CLK-, 13 CEC, 14 RESERV, 15 HDMI_SCL, 16 HDMI_SDA, 17 GND, 18 +5V, 19 HPD, 20 GND, 21 GND, 22 GND, 23 GND

## Inductor_smal
designator L?, comment value 3.3uH  (hidden comment: Value)
PartNumber: IHLP2020CZER3R3M01; ComponentType: *; Manufacter: *; Package: IHLP2020; ClassName: *
footprint IHLP2020
pins: 1, 2

## Inductor_smal_1
designator L?, comment value 2.2uH  (hidden comment: Value)
PartNumber: IHLP2020CZER2R2M01; ComponentType: *; Manufacter: *; Package: IHLP2020; ClassName: *
footprint IHLP2020
pins: 1, 2

## Inductor_smal_2
designator L?, comment value 1uH  (hidden comment: Value)
PartNumber: HEI252012A-1R0M-Q8; ComponentType: *; Manufacter: *; Package: HEI252012A; ClassName: *
footprint MWSA0402S
footprint HEI252012A
pins: 1, 2

## Inductor_smal_3
designator L?, comment value 0.33uH  (hidden comment: Value)
PartNumber: HEI252012A-R33M-Q8; ComponentType: *; Manufacter: *; Package: HEI252012A; ClassName: *
footprint MWSA0402S
footprint HEI252012A
pins: 1, 2

## Inductor_smal_4
designator L?, comment value BLM18PG181SN1  Package: SMD0603  (hidden comment: Value)
ComponentType: *; Manufacter: *; PartNumber: BLM18PG181SN1; ClassName: *
footprint IND_SMD_0603
pins: 1, 2

## Inductor_smal_5
designator L?, comment value PBY201209T-121Y-N  (hidden comment: Value)
ComponentType: *; Manufacter: *; Package: SMD0805; PartNumber: PBY201209T-121Y-N; ClassName: *
footprint CAP_SMD_0805
footprint IND_SMD_0805
pins: 1, 2

## Inductor_smal_6
designator L?, comment value 4.7uH  (hidden comment: Value)
PartNumber: MWSA0402S-4R7MT; ComponentType: *; Manufacter: *; Package: MWSA0402S; ClassName: *
footprint MWSA0402S
pins: 1, 2

## Inductor_smal_7
designator L?, comment value DNP  (hidden comment: Value)
PartNumber: Do Not Place; ComponentType: *; Manufacter: *; Package: SMD0402; ClassName: Solder_Clearence
footprint CAP_SMD_0402
footprint IND_SMD_0402
pins: 1, 2

## Jumper
designator J?
PartNumber: DS1025-01-1x2P8BV1-B; ComponentType: *; Manufacter: *; Package: PLS-2(2.00); ClassName: *; Value: Jumper
footprint Jumper2.54
footprint Jumper2
pins: 1, 2

## K4E8E304EE-EGCE
designator D?, comment K4E6E304EB-EGCF
ComponentType: *; Manufacter: *; Package: FBGA178; PartNumber: K4E6E304EB-EGCF; ClassName: *; Value: K4E6E304EB-EGCF
footprint FBGA178_13R00X11R50X1R20
part A pins: A1 NU1, A2 NU2, A12 NU3, A13 NU4, B1 NU5, B3 DDR_ZQ0, B4 DDR_ZQ1, B8 DDR_D31, B9 DDR_D30, B10 DDR_D29, B11 DDR_D28, B13 NU6, C2 DDR_A9, C8 DDR_D27, C9 DDR_D26, C10 DDR_D25, C11 DDR_D24, D2 DDR_A8, D8 DDR_DM3, D9 DDR_D15, D10 DDR_DQS3P, D11 DDR_DQS3N, E2 DDR_A7, E3 DDR_A6, E9 DDR_D14, E10 DDR_D13, E11 DDR_D12, F3 DDR_A5, F8 DDR_D11, F9 DDR_D10, F10 DDR_D9, F11 DDR_D8, G8 DDR_DM1, G10 DDR_DQS1P, G11 DDR_DQS1N, J2 DDR_CLKN, J3 DDR_CLKP, J8 DDR_ODT, K3 DDR_CKE0, K4 DDR_CKE1, L3 DDR_CS0, L4 DDR_CS1, L8 DDR_DM0, L10 DDR_DQS0P, L11 DDR_DQS0N, M3 DDR_A4, M8 DDR_D4, M9 DDR_D5, M10 DDR_D6, M11 DDR_D7, N2 DDR_A2, N3 DDR_A3, N9 DDR_D1, N10 DDR_D2, N11 DDR_D3, P2 DDR_A1, P8 DDR_DM2, P9 DDR_D0, P10 DDR_DQS2P, P11 DDR_DQS2N, R2 DDR_A0, R8 DDR_D20, R9 DDR_D21, R10 DDR_D22, R11 DDR_D23, T1 NU7, T8 DDR_D16, T9 DDR_D17, T10 DDR_D18, T11 DDR_D19, T13 NU8, U1 NU9, U2 NU10, U12 NU11, U13 NU12
part B pins: A3 VDD1_1, A4 VDD1_2, A5 VDD1_3, A6 VDD1_4, A8 VDD2_20, A9 VDD2_19, A10 VDD1_5, A11 VDDQ_17, B2 VSS1, B5 VSS2, B6 VSSQ1, B12 VSSQ2, C3 VSSCA1, C4 NC1, C5 VSS3, C6 VSSQ3, C12 VDDQ_16, D3 VSSCA2, D4 VDD2_18, D5 VDD2_17, D6 VDD2_16, D12 VSSQ4, E4 VSS4, E5 VSS5, E6 VSSQ5, E8 VDDQ_15, E12 VDDQ_14, F2 VDDCA5, F4 VSSCA3, F5 VSS6, F6 VSSQ6, F12 VSSQ7, G2 VDDCA4, G3 VSSCA4, G4 VSSCA5, G5 VDD2_15, G6 VSSQ8, G9 VSSQ9, G12 VDDQ_13, H2 VSS7, H3 VDDCA3, H4 DDR_VREFCA, H5 VDD2_14, H6 VDD2_13, H8 VDDQ_12, H9 VDDQ_11, H10 VSSQ10, H11 VDDQ_10, H12 VDD2_12, J4 VSSCA6, J5 VDD2_11, J6 VDD2_10, J9 VDDQ_9, J10 VDDQ_8, J11 DDR_VREFDQ, J12 VSS8, K2 VSS9, K5 VDD2_9, K6 VDD2_8, K8 VDDQ_7, K9 NC2, K10 VSSQ11, K11 VDDQ_6, K12 VDD2_7, L2 VDDCA2, L5 VDD2_6, L6 VSS10, L9 VSSQ12, L12 VDDQ_5, M2 VDDCA1, M4 VSSCA7, M5 VSS11, M6 VSSQ13, M12 VSSQ14, N4 VSS12, N5 VSS13, N6 VSSQ15, N8 VDDQ_4, N12 VDDQ_3, P3 VSSCA8, P4 VDD2_5, P5 VDD2_4, P6 VDD2_3, P12 VSSQ16, R3 NC3, R4 VSS14, R5 VSS15, R6 VSSQ17, R12 VDDQ_2, T2 VSS16, T3 VSS17, T4 VSS18, T5 VSS19, T6 VSSQ18, T12 VSSQ19, U3 VDD1_6, U4 VDD1_7, U5 VDD1_8, U6 VDD1_9, U8 VDD2_2, U9 VDD2_1, U10 VDD1_10, U11 VDDQ_1

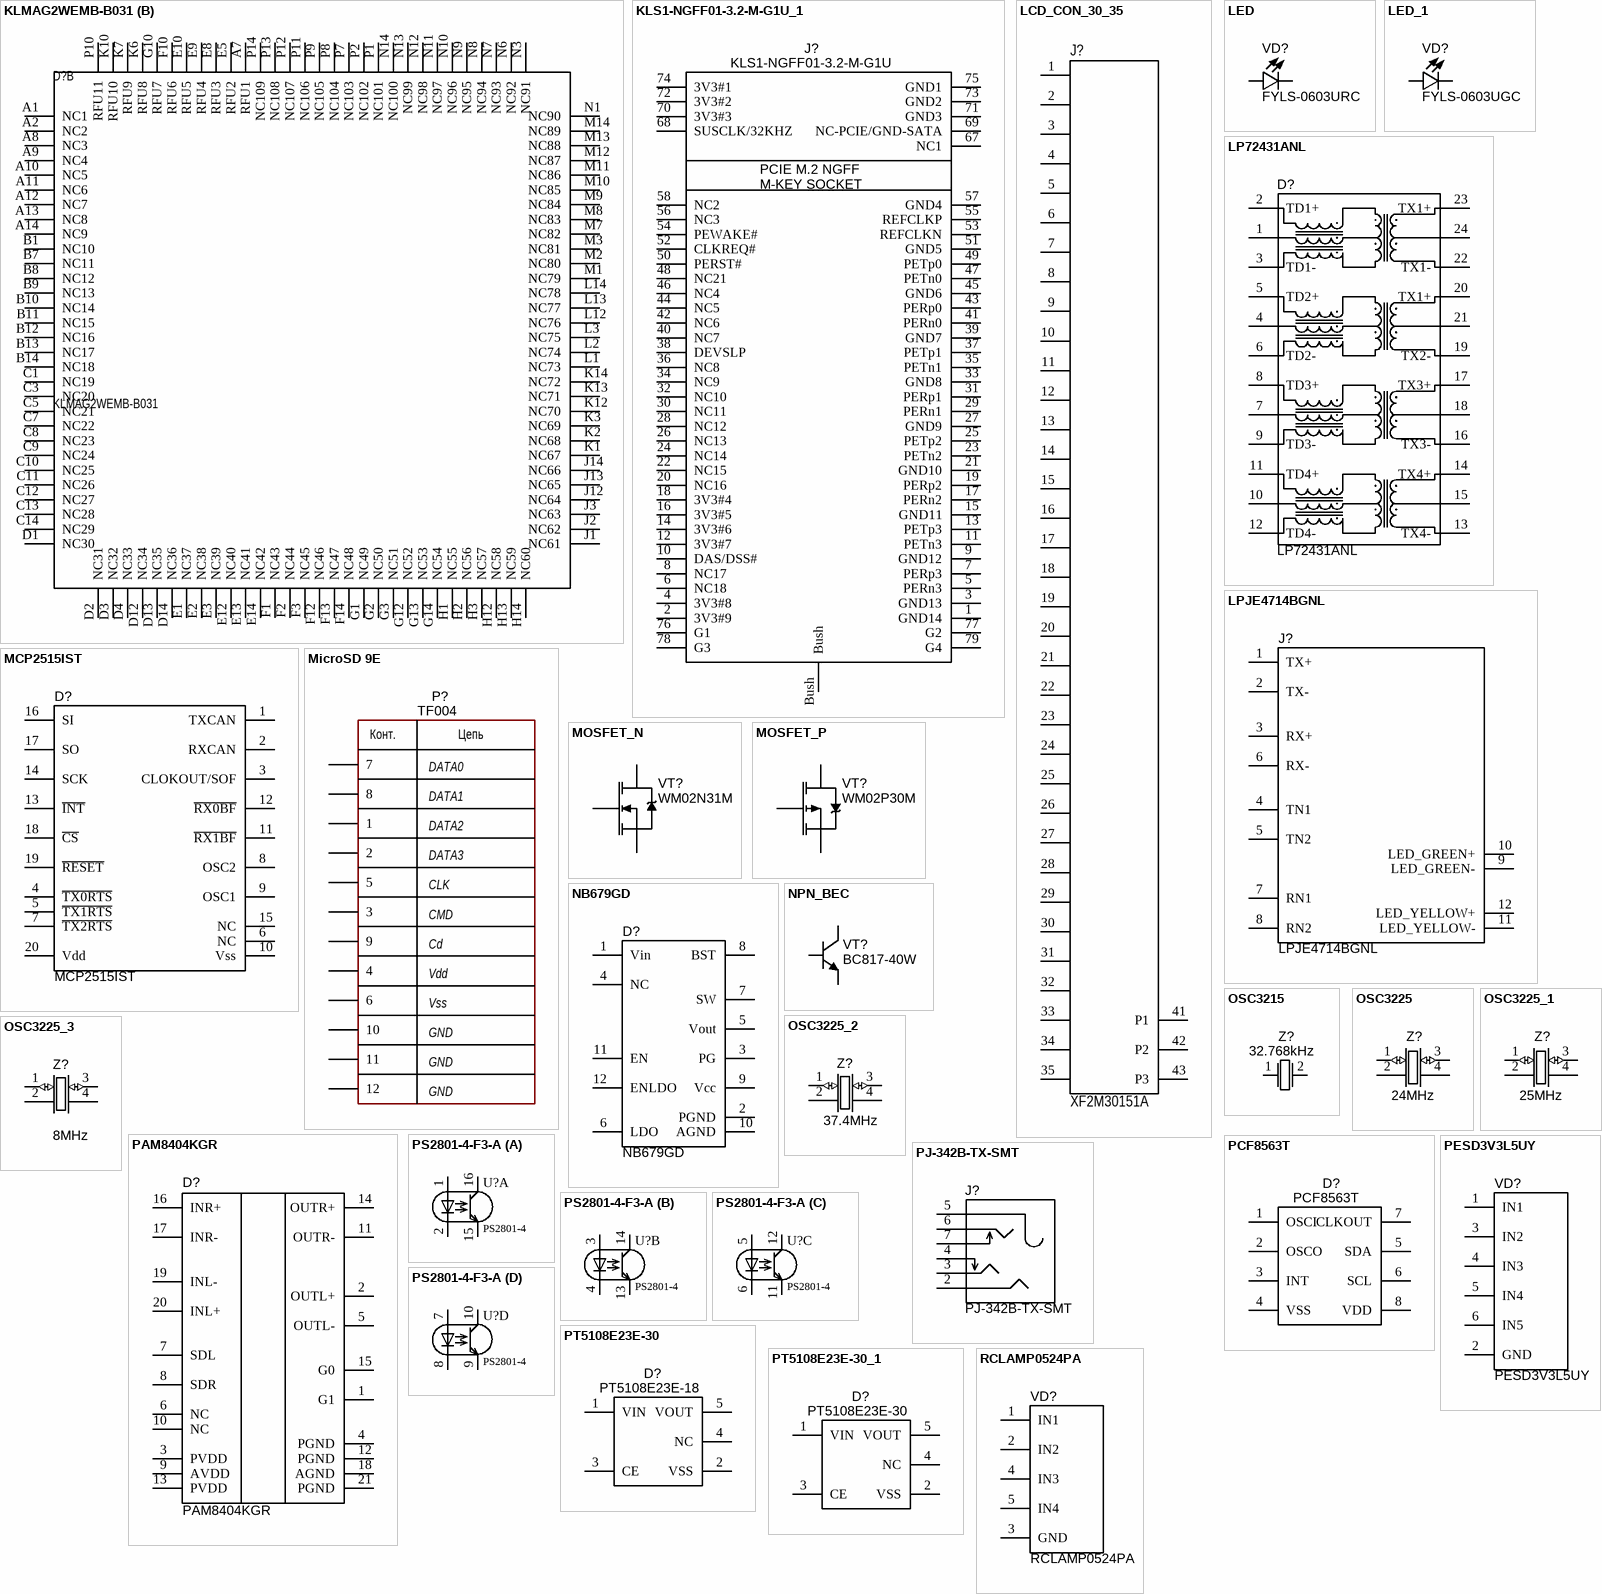
[diagram p3: symbols KLMAG2WEMB-B031 to RCLAMP0524PA]

## KLMAG2WEMB-B031
designator D?
ComponentType: *; Manufacter: *; Package: FBGA153; PartNumber: KLMAG2WEMB-B031; ClassName: *; Value: KLMAG2WEMB-B031
footprint FBGA153
part A pins: A3 DATA0, A4 DATA1, A5 DATA2, A6 VSS, B2 DATA3, B3 DATA4, B4 DATA5, B5 DATA6, B6 DATA7, C2 VDDIM, C4 VSS, C6 VDD, E6 VDDF, E7 VSS, F5 VDDF, G5 VSS, H5 DS, H10 VSS, J5 VSS, J10 VDDF, K5 ~{RST}, K8 VSS, K9 VDDF, M4 VDD, M5 CMD, M6 CLK, N2 VSS, N4 VDD, N5 VSS, P3 VDD, P4 VSS, P5 VDD, P6 VSS
part B pins: A1 NC1, A2 NC2, A7 RFU1, A8 NC3, A9 NC4, A10 NC5, A11 NC6, A12 NC7, A13 NC8, A14 NC9, B1 NC10, B7 NC11, B8 NC12, B9 NC13, B10 NC14, B11 NC15, B12 NC16, B13 NC17, B14 NC18, C1 NC19, C3 NC20, C5 NC21, C7 NC22, C8 NC23, C9 NC24, C10 NC25, C11 NC26, C12 NC27, C13 NC28, C14 NC29, D1 NC30, D2 NC31, D3 NC32, D4 NC33, D12 NC34, D13 NC35, D14 NC36, E1 NC37, E2 NC38, E3 NC39, E5 RFU2, E8 RFU3, E9 RFU4, E10 RFU5, E12 NC40, E13 NC41, E14 NC42, F1 NC43, F2 NC44, F3 NC45, F10 RFU6, F12 NC46, F13 NC47, F14 NC48, G1 NC49, G2 NC50, G3 NC51, G10 RFU7, G12 NC52, G13 NC53, G14 NC54, H1 NC55, H2 NC56, H3 NC57, H12 NC58, H13 NC59, H14 NC60, J1 NC61, J2 NC62, J3 NC63, J12 NC64, J13 NC65, J14 NC66, K1 NC67, K2 NC68, K3 NC69, K6 RFU8, K7 RFU9, K10 RFU10, K12 NC70, K13 NC71, K14 NC72, L1 NC73, L2 NC74, L3 NC75, L12 NC76, L13 NC77, L14 NC78, M1 NC79, M2 NC80, M3 NC81, M7 NC82, M8 NC83, M9 NC84, M10 NC85, M11 NC86, M12 NC87, M13 NC88, M14 NC89, N1 NC90, N3 NC91, N6 NC92, N7 NC93, N8 NC94, N9 NC95, N10 NC96, N11 NC97, N12 NC98, N13 NC99, N14 NC100, P1 NC101, P2 NC102, P7 NC103, P8 NC104, P9 NC105, P10 RFU11, P11 NC106, P12 NC107, P13 NC108, P14 NC109

## KLS1-NGFF01-3.2-M-G1U_1
designator J?, comment KLS1-NGFF01-3.2-M-G1U
ComponentType: SMD Chip Resistor; Manufacter: *; Voltage: *; ClassName: *; Tolerance: *; PartNumber: KLS1-NGFF01-3.2-M-G1U; Package: KLS1-NGFF01-3.2-M-G1U; Value: KLS1-NGFF01-3.2-M-G1U
footprint KLS1-NGFF01-3.2-M-G1U_42mm
pins: 1 GND14, 2 3V3#9, 3 GND13, 4 3V3#8, 5 PERn3, 6 NC18, 7 PERp3, 8 NC17, 9 GND12, 10 DAS/DSS#, 11 PETn3, 12 3V3#7, 13 PETp3, 14 3V3#6, 15 GND11, 16 3V3#5, 17 PERn2, 18 3V3#4, 19 PERp2, 20 NC16, 21 GND10, 22 NC15, 23 PETn2, 24 NC14, 25 PETp2, 26 NC13, 27 GND9, 28 NC12, 29 PERn1, 30 NC11, 31 PERp1, 32 NC10, 33 GND8, 34 NC9, 35 PETn1, 36 NC8, 37 PETp1, 38 DEVSLP, 39 GND7, 40 NC7, 41 PERn0, 42 NC6, 43 PERp0, 44 NC5, 45 GND6, 46 NC4, 47 PETn0, 48 NC21, 49 PETp0, 50 PERST#, 51 GND5, 52 CLKREQ#, 53 REFCLKN, 54 PEWAKE#, 55 REFCLKP, 56 NC3, 57 GND4, 58 NC2, 67 NC1, 68 SUSCLK/32KHZ, 69 NC-PCIE/GND-SATA, 70 3V3#3, 71 GND3, 72 3V3#2, 73 GND2, 74 3V3#1, 75 GND1, 76 G1, 77 G2, 78 G3, 79 G4, Bush
text: PCIE M.2 NGFF / M-KEY SOCKET

## LCD_CON_30_35
designator J?, comment XF2M30151A
ComponentType: *; Manufacter: *; Package: XF2M30151A; PartNumber: XF2M30151A; ClassName: *; Value: XF2M30151A
footprint XF2M-30_3515-1A (Rotary Backclock Connector 40 pin)
pins: 1, 2, 3, 4, 5, 6, 7, 8, 9, 10, 11, 12, 13, 14, 15, 16, 17, 18, 19, 20, 21, 22, 23, 24, 25, 26, 27, 28, 29, 30, 31, 32, 33, 34, 35, 41 P1, 42 P2, 43 P3

## LED
designator VD?, comment FYLS-0603URC
ComponentType: *; Manufacter: *; Package: SMD0603; PartNumber: FYLS-0603URC; Value: FYLS-0603URC
footprint LED_0603
pins: 1 A, 2 C

## LED_1
designator VD?, comment FYLS-0603UGC
ComponentType: *; Manufacter: *; Package: SMD0603; PartNumber: FYLS-0603UGC; Value: FYLS-0603UGC
footprint LED_0603
pins: 1 A, 2 C

## LP72431ANL
designator D?
ComponentType: *; Manufacter: *; Voltage: *; ClassName: *; Tolerance: *; PartNumber: LP72431ANL; Package: LP72431ANL; Value: LP72431ANL
footprint LP72431ANL (pitch 1.27 mm)
pins: 1 TCT1, 2 TD1+, 3 TD1-, 4 TCT2, 5 TD2+, 6 TD2-, 7 TCT3, 8 TD3+, 9 TD3-, 10 TCT4, 11 TD4+, 12 TD4-, 13 TX4-, 14 TX4+, 15 TCT_4, 16 TX3-, 17 TX3+, 18 TCT_3, 19 TX2-, 20 TX1+, 21 TCT_2, 22 TX1-, 23 TX1+, 24 TCT_1

## LPJE4714BGNL
designator J?
ComponentType: *; Manufacter: *; Voltage: *; ClassName: *; Tolerance: *; PartNumber: LPJE4714BGNL; Package: LPJE4714BGNL; Value: LPJE4714BGNL
footprint LPJE4714BGNL
pins: 1 TX+, 2 TX-, 3 RX+, 4 TN1, 5 TN2, 6 RX-, 7 RN1, 8 RN2, 9 LED_GREEN-, 10 LED_GREEN+, 11 LED_YELLOW-, 12 LED_YELLOW+

## MCP2515IST
designator D?
ComponentType: SMD Chip Resistor; Manufacter: *; Voltage: *; ClassName: *; Tolerance: *; PartNumber: MCP2515IST; Package: TSSOP-20; Value: MCP2515IST
footprint TSSOP-20
pins: 1 TXCAN, 2 RXCAN, 3 CLOKOUT/SOF, 4 ~{TX0RTS}, 5 ~{TX1RTS}, 6 NC, 7 ~{TX2RTS}, 8 OSC2, 9 OSC1, 10 Vss, 11 ~{RX1BF}, 12 ~{RX0BF}, 13 ~{INT}, 14 SCK, 15 NC, 16 SI, 17 SO, 18 ~{CS}, 19 ~{RESET}, 20 Vdd

## MicroSD 9E
designator P?, comment TF004
ComponentType: MicroSD conector; Manufacter: *; Package: TF004; PartNumber: TF004; Value: TF004
footprint CON: PLD-12
footprint TF004 (micro sd holder 10 pin)
pins: 1, 2, 3 (power), 4 (power), 5 (power), 6 (power), 7 (power), 8 (power), 9 (power), 10 (power), 11 (power), 12 (power)
text: Конт.; Цепь; DATA0; DATA1; DATA2; DATA3; CLK; CMD; Cd; Vdd; Vss; GND

## MOSFET_N
designator VT?, comment value WM02N31M  (hidden comment: Value)
ComponentType: *; Manufacter: *; Package: SOT23; PartNumber: WM02N31M; ClassName: *
footprint SOT23
pins: 1 G, 2 S, 3 D

## MOSFET_P
designator VT?, comment value WM02P30M  (hidden comment: Value)
ComponentType: *; Manufacter: *; Package: SOT23; PartNumber: WM02P30M; ClassName: *
footprint SOT23
pins: 1 G, 2 S, 3 D

## NB679GD
designator D?
ComponentType: SMD Chip Resistor; Manufacter: *; Voltage: *; ClassName: *; Tolerance: *; PartNumber: NB679GD; Package: QFN-12; Value: NB679GD
footprint QFN-12_2mmx3mm
pins: 1 Vin, 2 PGND, 3 PG, 4 NC, 5 Vout, 6 LDO, 7 SW, 8 BST, 9 Vcc, 10 AGND, 11 EN, 12 ENLDO

## NPN_BEC
designator VT?, comment BC817-40W
ComponentType: *; Manufacter: *; Package: SC-70; PartNumber: BC817-40W; ClassName: *; Value: BC817-40W
footprint SOT23
footprint SC-70
pins: 1 B, 2 E, 3 C

## OSC3215
designator Z?, comment value 32.768kHz  (hidden comment: Value)
PartNumber: SJK-7L-32.768-12.5-20-70-C; ComponentType: *; Manufacter: *; Package: TSX3215
footprint TSX3215
pins: 1, 2

## OSC3225
designator Z?, comment value 24MHz  (hidden comment: Value)
PartNumber: 12.88665; ComponentType: *; Manufacter: *; Package: TSX3225
footprint TSX3225
pins: 1 IN/OUT (io), 2 GND, 3 IN/OUT (io), 4 GND

## OSC3225_1
designator Z?, comment value 25MHz  (hidden comment: Value)
PartNumber: X322525MOB4SI; ComponentType: *; Manufacter: *; Package: TSX3225
footprint TSX3225
pins: 1 IN/OUT (io), 2 GND, 3 IN/OUT (io), 4 GND

## OSC3225_2
designator Z?, comment value 37.4MHz  (hidden comment: Value)
PartNumber: X3225374MOB4SI; ComponentType: *; Manufacter: *; Package: TSX3225
footprint TSX3225
pins: 1 IN/OUT (io), 2 GND, 3 IN/OUT (io), 4 GND

## OSC3225_3
designator Z?, comment value 8MHz  (hidden comment: Value)
PartNumber: X32258MOB4SI; ComponentType: *; Manufacter: *; Package: TSX3225
footprint TSX3225
pins: 1 IN/OUT (io), 2 GND, 3 IN/OUT (io), 4 GND

## PAM8404KGR
designator D?
ComponentType: SMD Chip Resistor; Manufacter: *; Voltage: *; ClassName: *; Tolerance: *; PartNumber: PAM8404KGR; Package: QFN-20; Value: PAM8404KGR
footprint QFN-20 4mmx4mm
pins: 1 G1, 2 OUTL+, 3 PVDD, 4 PGND, 5 OUTL-, 6 NC, 7 SDL, 8 SDR, 9 AVDD, 10 NC, 11 OUTR-, 12 PGND, 13 PVDD, 14 OUTR+, 15 G0, 16 INR+, 17 INR-, 18 AGND, 19 INL-, 20 INL+, 21 PGND

## PCF8563T
designator D?
ComponentType: SMD Chip Resistor; Manufacter: *; Voltage: *; ClassName: *; Tolerance: *; PartNumber: PCF8563T; Package: SO8; Value: PCF8563T
footprint SO8 (pitch 1.27 mm)
pins: 1 OSCI, 2 OSCO, 3 INT, 4 VSS, 5 SDA, 6 SCL, 7 CLKOUT, 8 VDD

## PESD3V3L5UY
designator VD?
ComponentType: *; Manufacter: *; Package: SC70-6; PartNumber: PESD3V3L5UY; ClassName: *; Value: PESD3V3L5UY
footprint SC70-6 (SOT23, 5-Leads, Body 2,90x2,80mm, Pitch 0,95mm, IPC Medium Density)
pins: 1 IN1, 2 GND, 3 IN2, 4 IN3, 5 IN4, 6 IN5

## PJ-342B-TX-SMT
designator J?
ComponentType: SMD Chip Resistor; Manufacter: *; Voltage: *; ClassName: *; Tolerance: *; PartNumber: PJ-342B-TX-SMT; Package: PJ-342B-TX-SMT; Value: PJ-342B-TX-SMT
footprint PJ-342B-TX-SMT
pins: 2, 3, 4, 5, 6, 7

## PS2801-4-F3-A
designator U?, comment PS2801-4
Optocoupler X4; Manufacturer: Renesas; PartNumber: PS2801-4-F3-A; Comments: 80V, 50mA; Value: PS2801-4; Package: SOIC127P700X210-16N; ClassName: *
footprint SOIC127P700X210-16N (SOIC, 16-Leads, Body 10.30x4.40mm, Pitch 1.27mm, IPC Medium Density)
part A pins: 1 A, 2 C, 15 E, 16 C
part B pins: 3 A, 4 C, 13 E, 14 C
part C pins: 5 A, 6 C, 11 E, 12 C
part D pins: 7 A, 8 C, 9 E, 10 C

## PT5108E23E-30
designator D?, comment PT5108E23E-18
ComponentType: SMD Chip Resistor; Manufacter: *; Voltage: *; ClassName: *; Tolerance: *; PartNumber: PT5108E23E-18; Package: SOT23-5; Value: PT5108E23E-18
footprint SOT23-5 (pitch 0.95 mm)
pins: 1 VIN, 2 VSS, 3 CE, 4 NC, 5 VOUT

## PT5108E23E-30_1
designator D?, comment PT5108E23E-30
ComponentType: SMD Chip Resistor; Manufacter: *; Voltage: *; ClassName: *; Tolerance: *; PartNumber: PT5108E23E-30; Package: SOT23-5; Value: PT5108E23E-30
footprint SOT23-5 (pitch 0.95 mm)
pins: 1 VIN, 2 VSS, 3 CE, 4 NC, 5 VOUT

## RCLAMP0524PA
designator VD?
ComponentType: *; Manufacter: *; Package: RCLAMP0524PA; PartNumber: RCLAMP0524PA; ClassName: *; Value: RCLAMP0524PA
footprint RCLAMP0524PA
pins: 1 IN1, 2 IN2, 3 GND, 4 IN3, 5 IN4

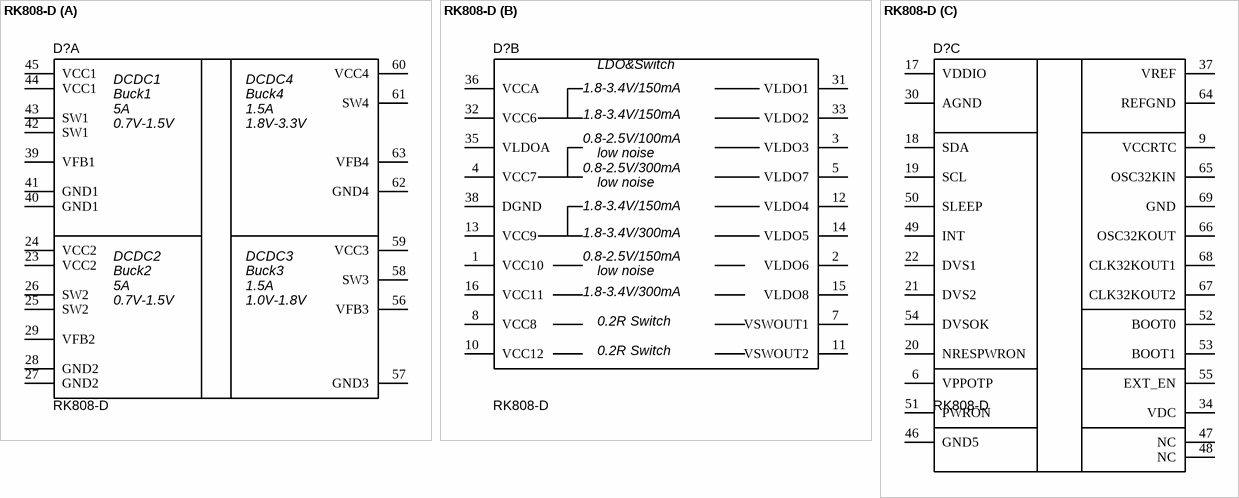
[diagram p4: symbol RK808-D]

## RK808-D
designator D?
ComponentType: SMD Chip Resistor; Manufacter: *; Voltage: *; ClassName: *; Tolerance: *; PartNumber: RK808-D; Package: QFN68; Value: RK808-D
footprint QFN35P700X700X80-69N
part A pins: 23 VCC2, 24 VCC2, 25 SW2, 26 SW2, 27 GND2, 28 GND2, 29 VFB2, 39 VFB1, 40 GND1, 41 GND1, 42 SW1, 43 SW1, 44 VCC1, 45 VCC1, 56 VFB3, 57 GND3, 58 SW3, 59 VCC3, 60 VCC4, 61 SW4, 62 GND4, 63 VFB4
part B pins: 1 VCC10, 2 VLDO6, 3 VLDO3, 4 VCC7, 5 VLDO7, 7 VSWOUT1, 8 VCC8, 10 VCC12, 11 VSWOUT2, 12 VLDO4, 13 VCC9, 14 VLDO5, 15 VLDO8, 16 VCC11, 31 VLDO1, 32 VCC6, 33 VLDO2, 35 VLDOA, 36 VCCA, 38 DGND
part C pins: 6 VPPOTP, 9 VCCRTC, 17 VDDIO, 18 SDA, 19 SCL, 20 NRESPWRON, 21 DVS2, 22 DVS1, 30 AGND, 34 VDC, 37 VREF, 46 GND5, 47 NC, 48 NC, 49 INT, 50 SLEEP, 51 PWRON, 52 BOOT0, 53 BOOT1, 54 DVSOK, 55 EXT_EN, 64 REFGND, 65 OSC32KIN, 66 OSC32KOUT, 67 CLK32KOUT2, 68 CLK32KOUT1, 69 GND
part A text: DCDC1; DCDC4; Buck1; Buck4; 5A; 1.5A; 0.7V-1.5V; 1.8V-3.3V; DCDC2; DCDC3; Buck2; Buck3; 1.0V-1.8V
part B text: LDO&Switch; 1.8-3.4V/150mA; 0.8-2.5V/100mA; low noise; 0.8-2.5V/300mA; 1.8-3.4V/300mA; 0.8-2.5V/150mA; 0.2R Switch

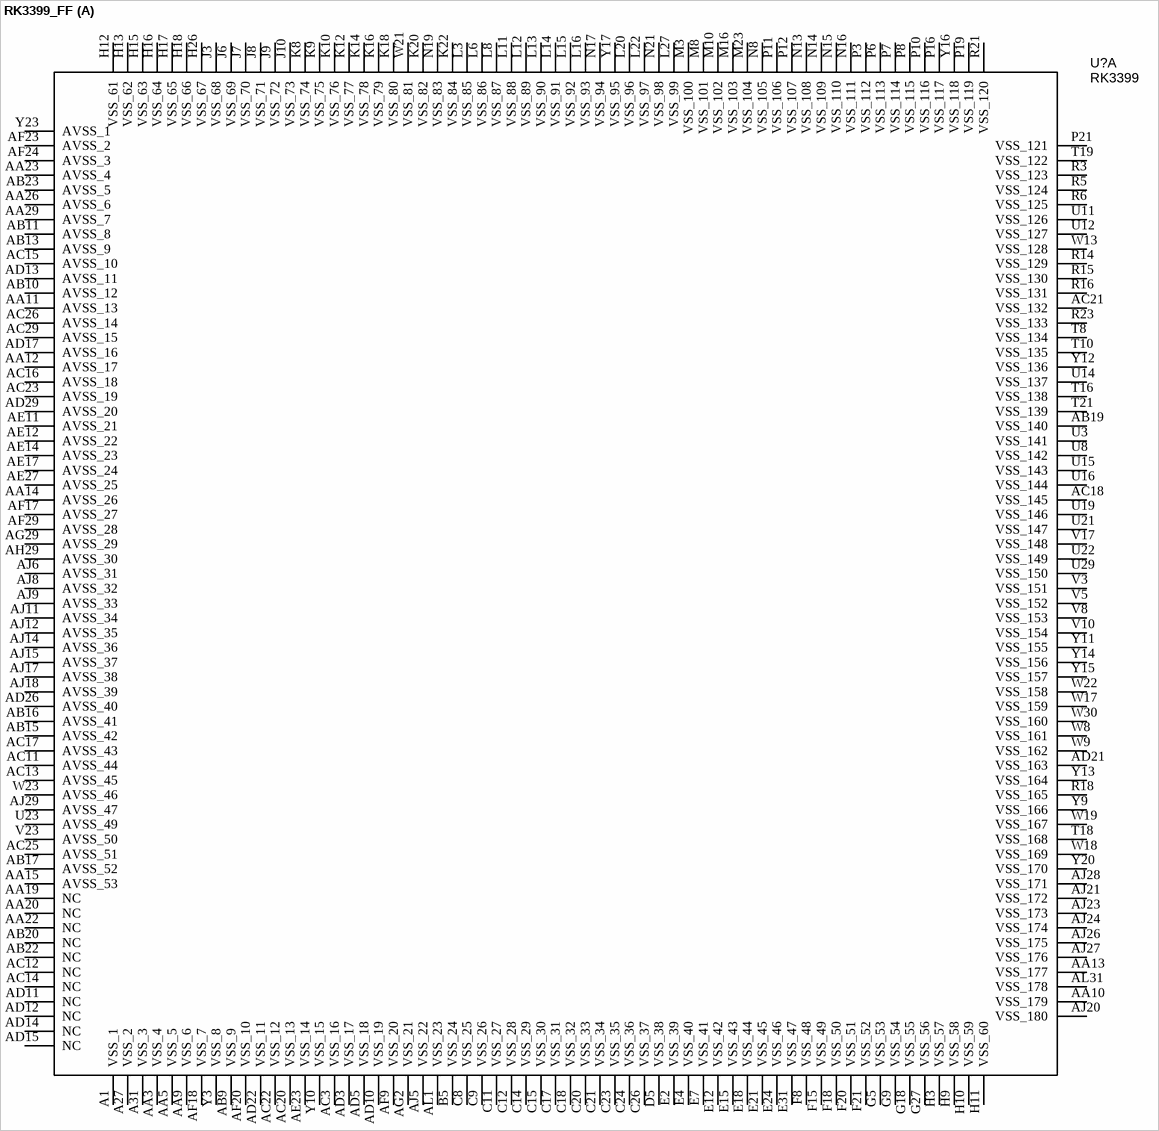
[diagram p5: symbol RK3399_FF]

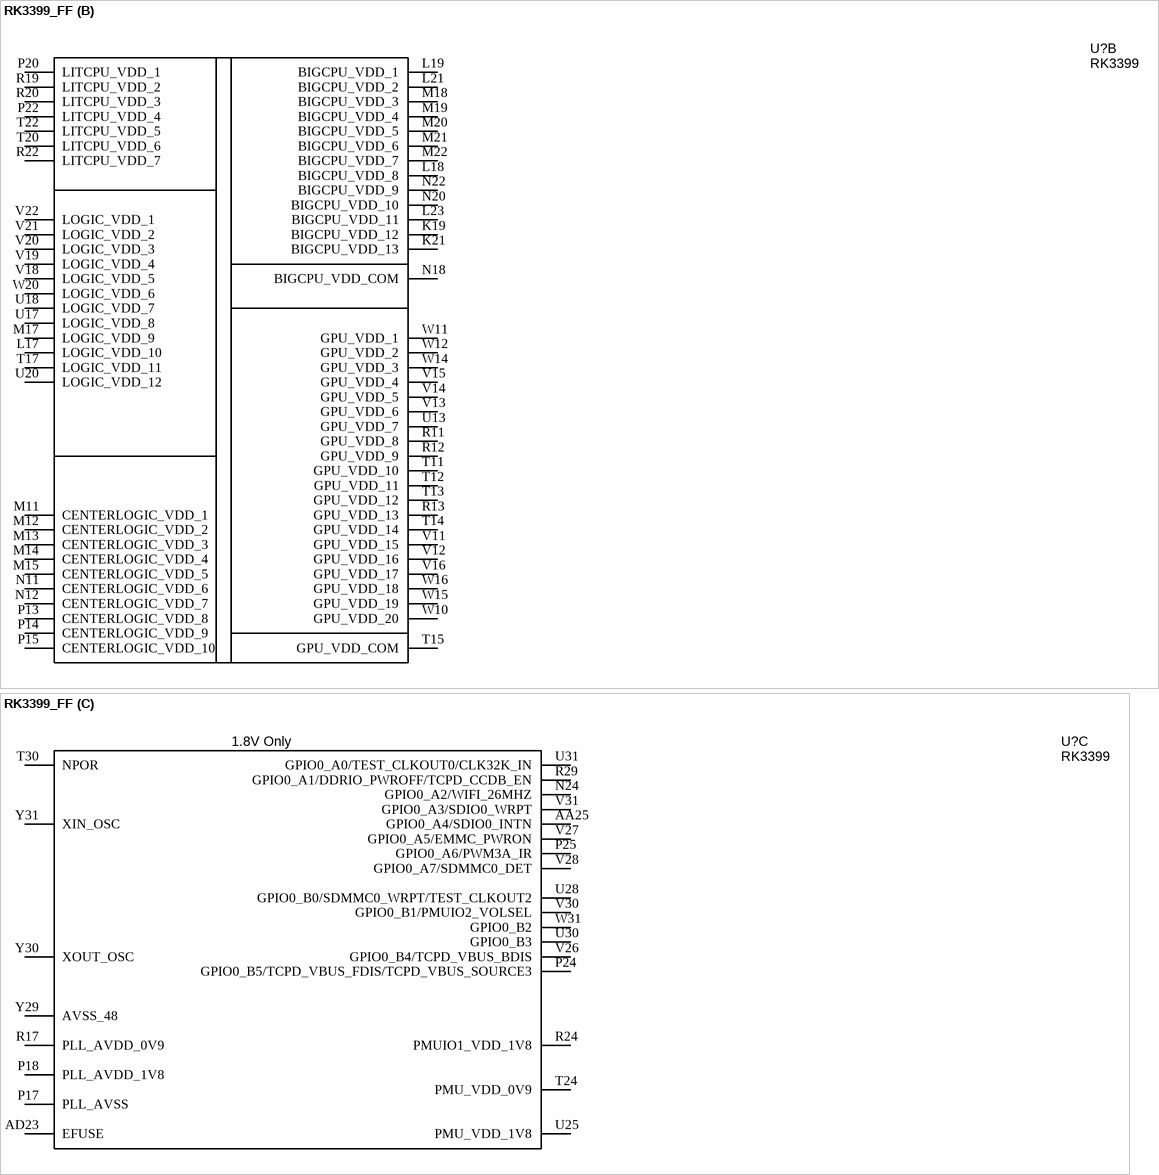
[diagram p6: symbol RK3399_FF]

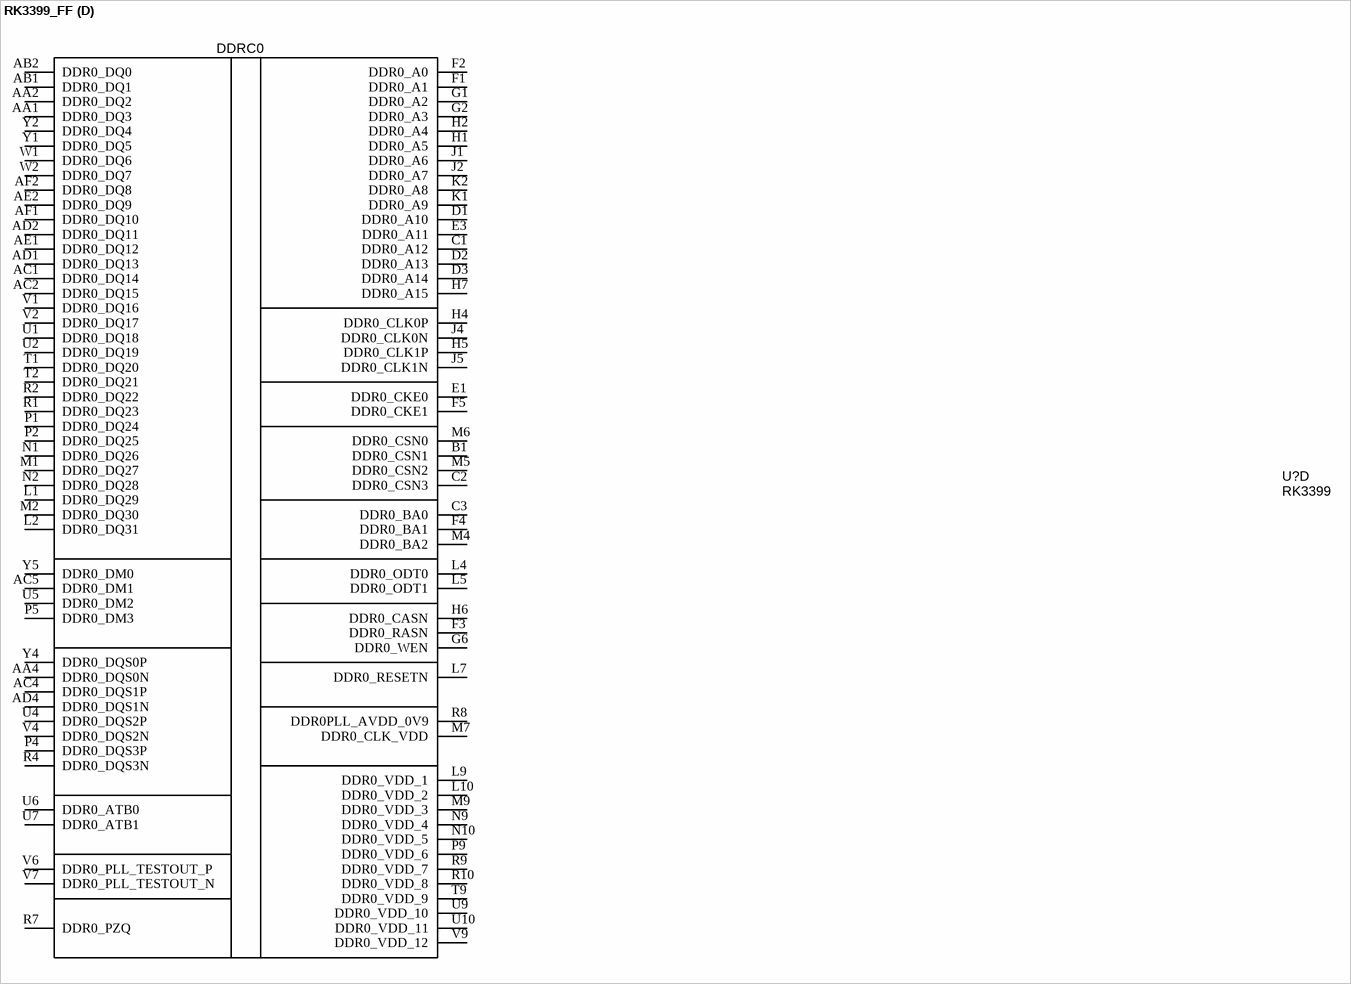
[diagram p7: symbol RK3399_FF]

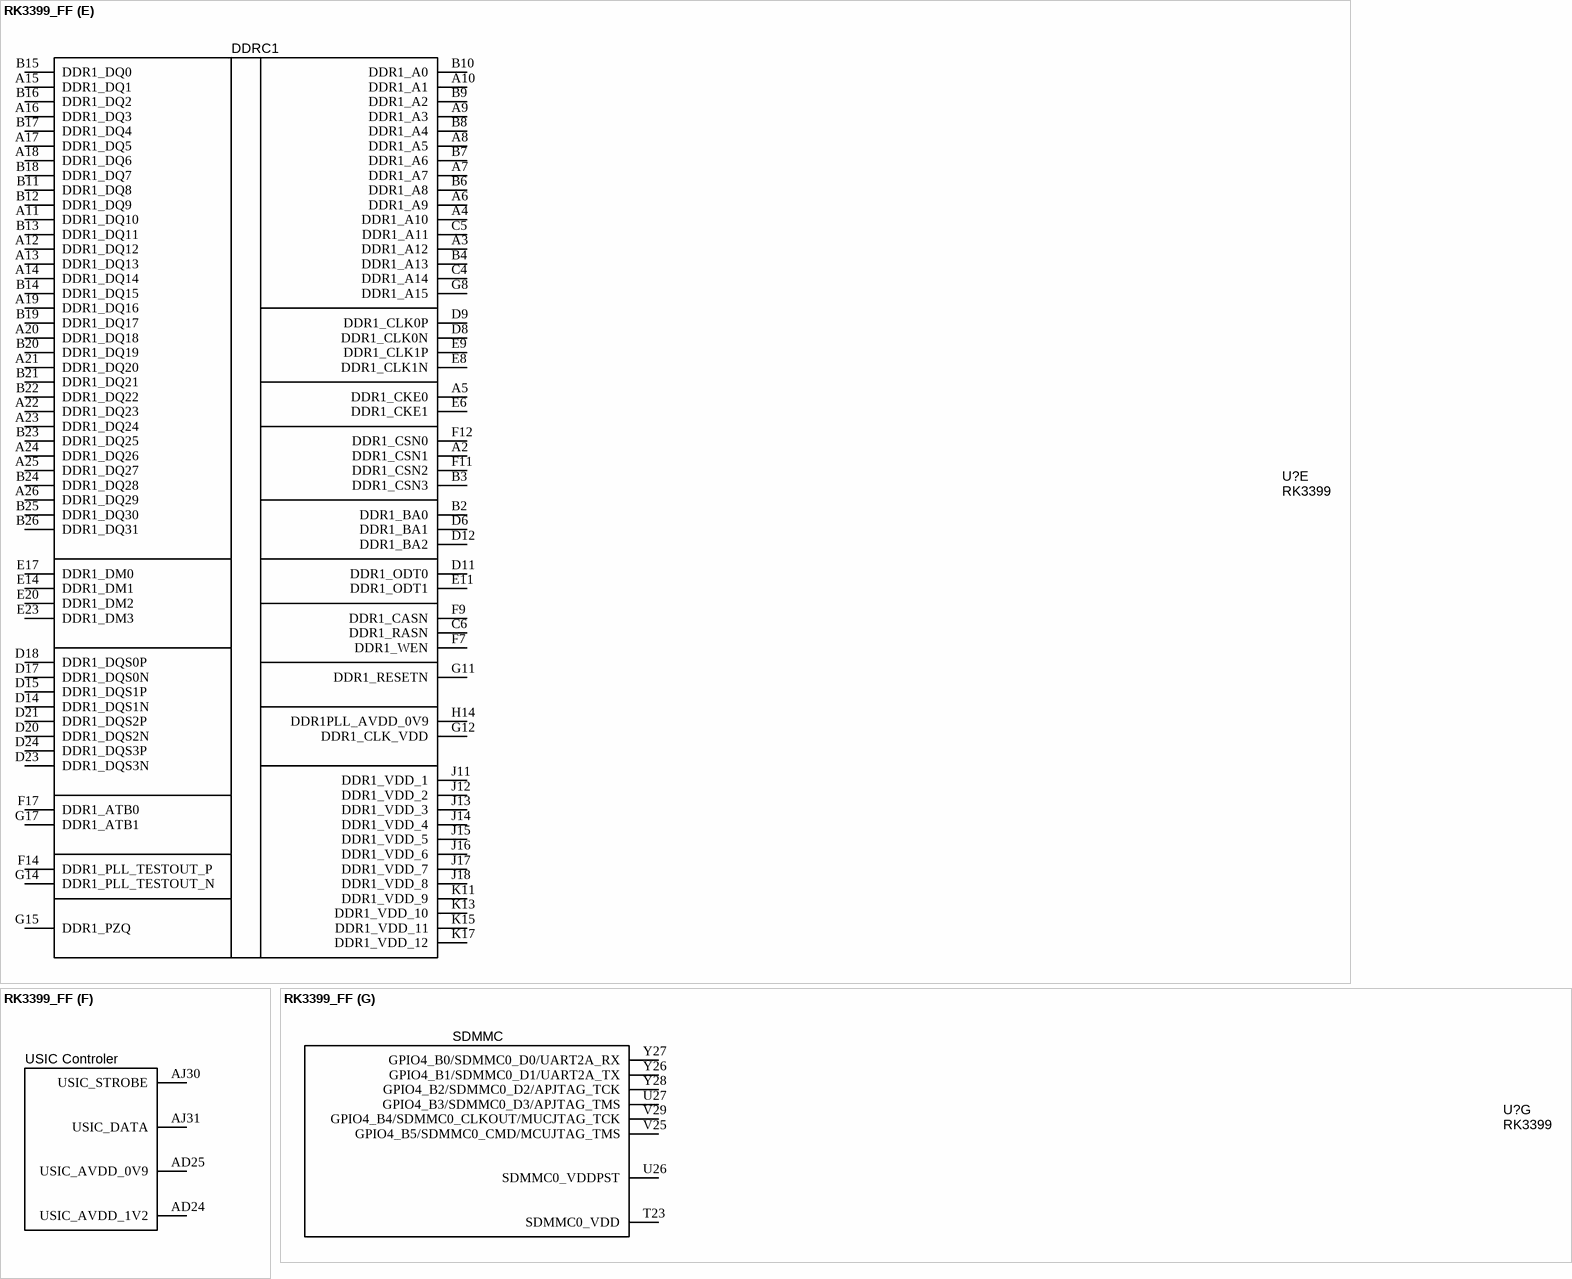
[diagram p8: symbol RK3399_FF]

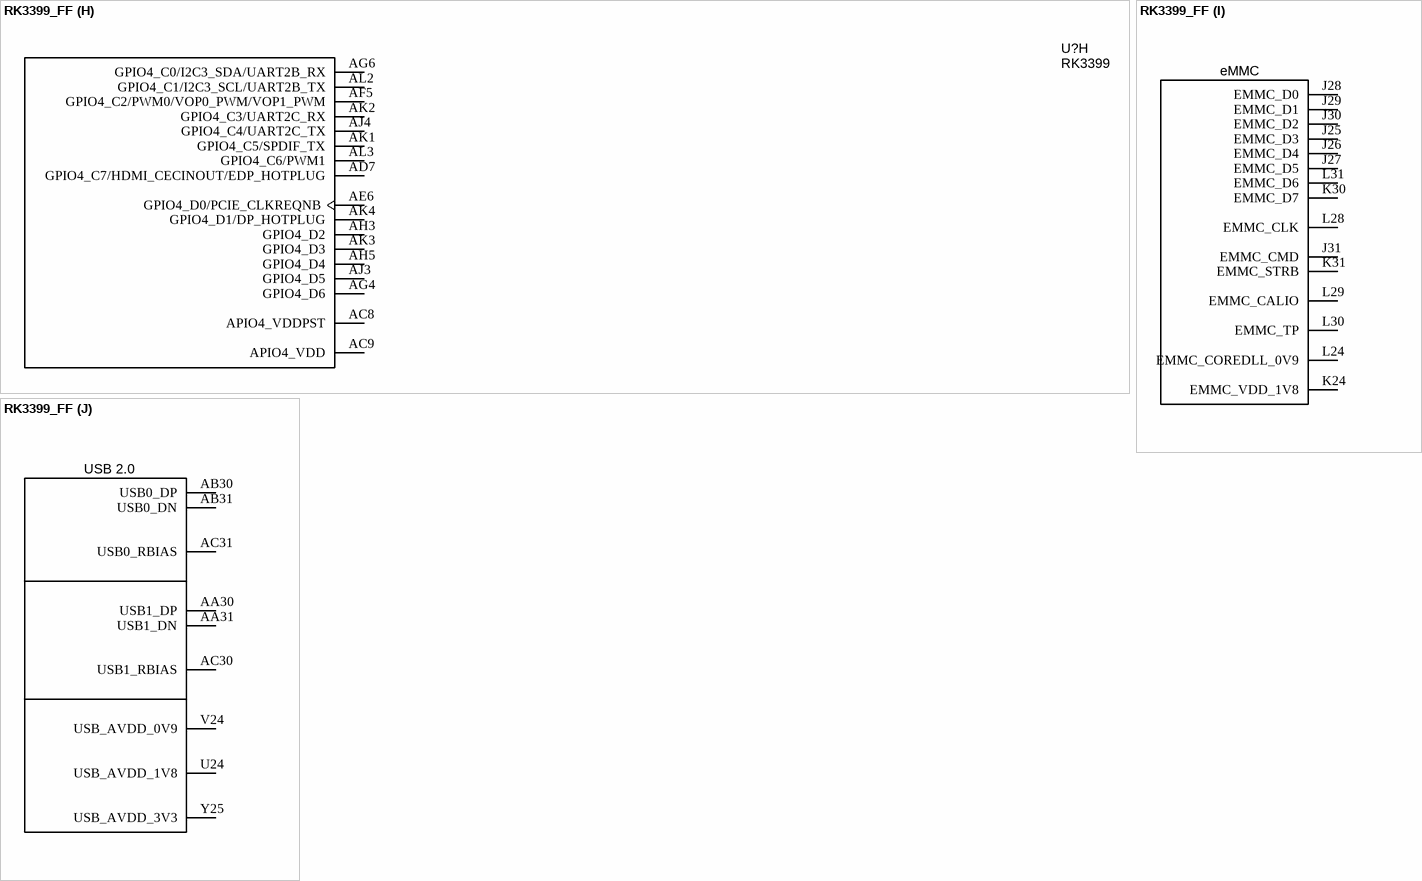
[diagram p9: symbol RK3399_FF]

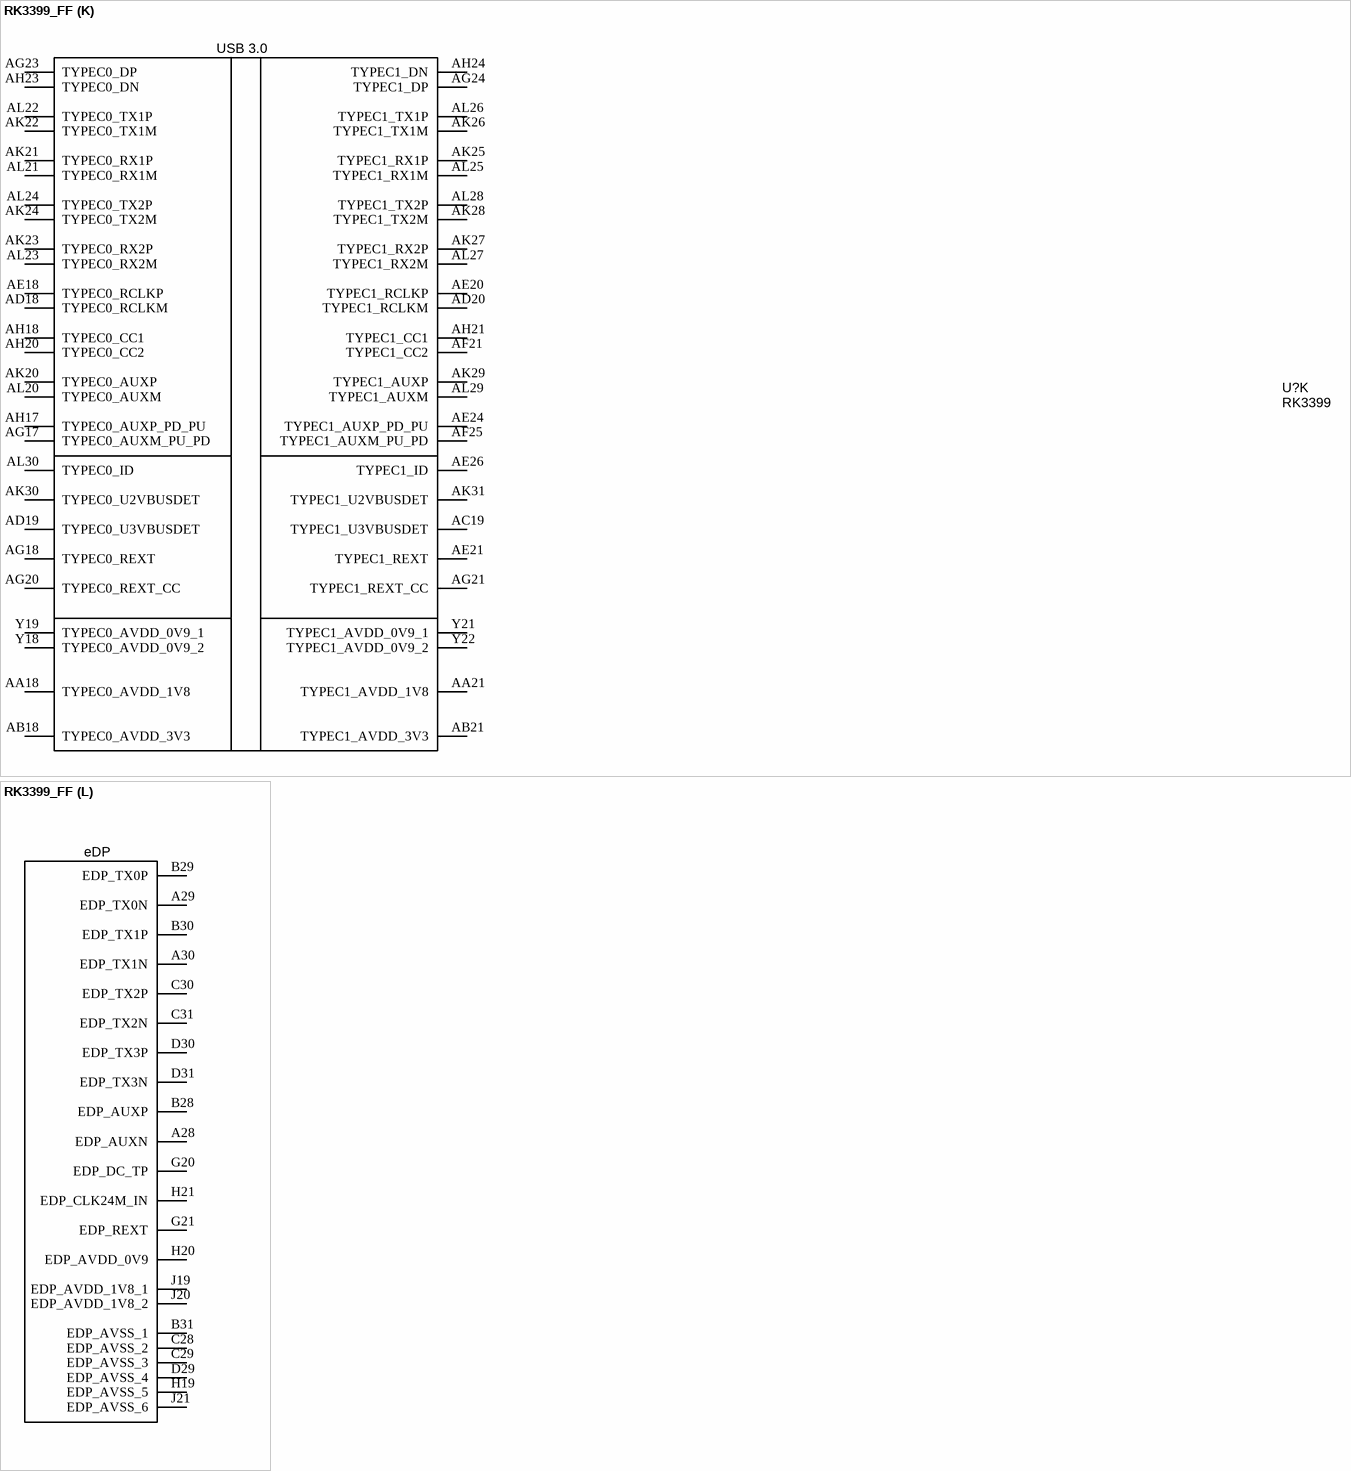
[diagram p10: symbol RK3399_FF]

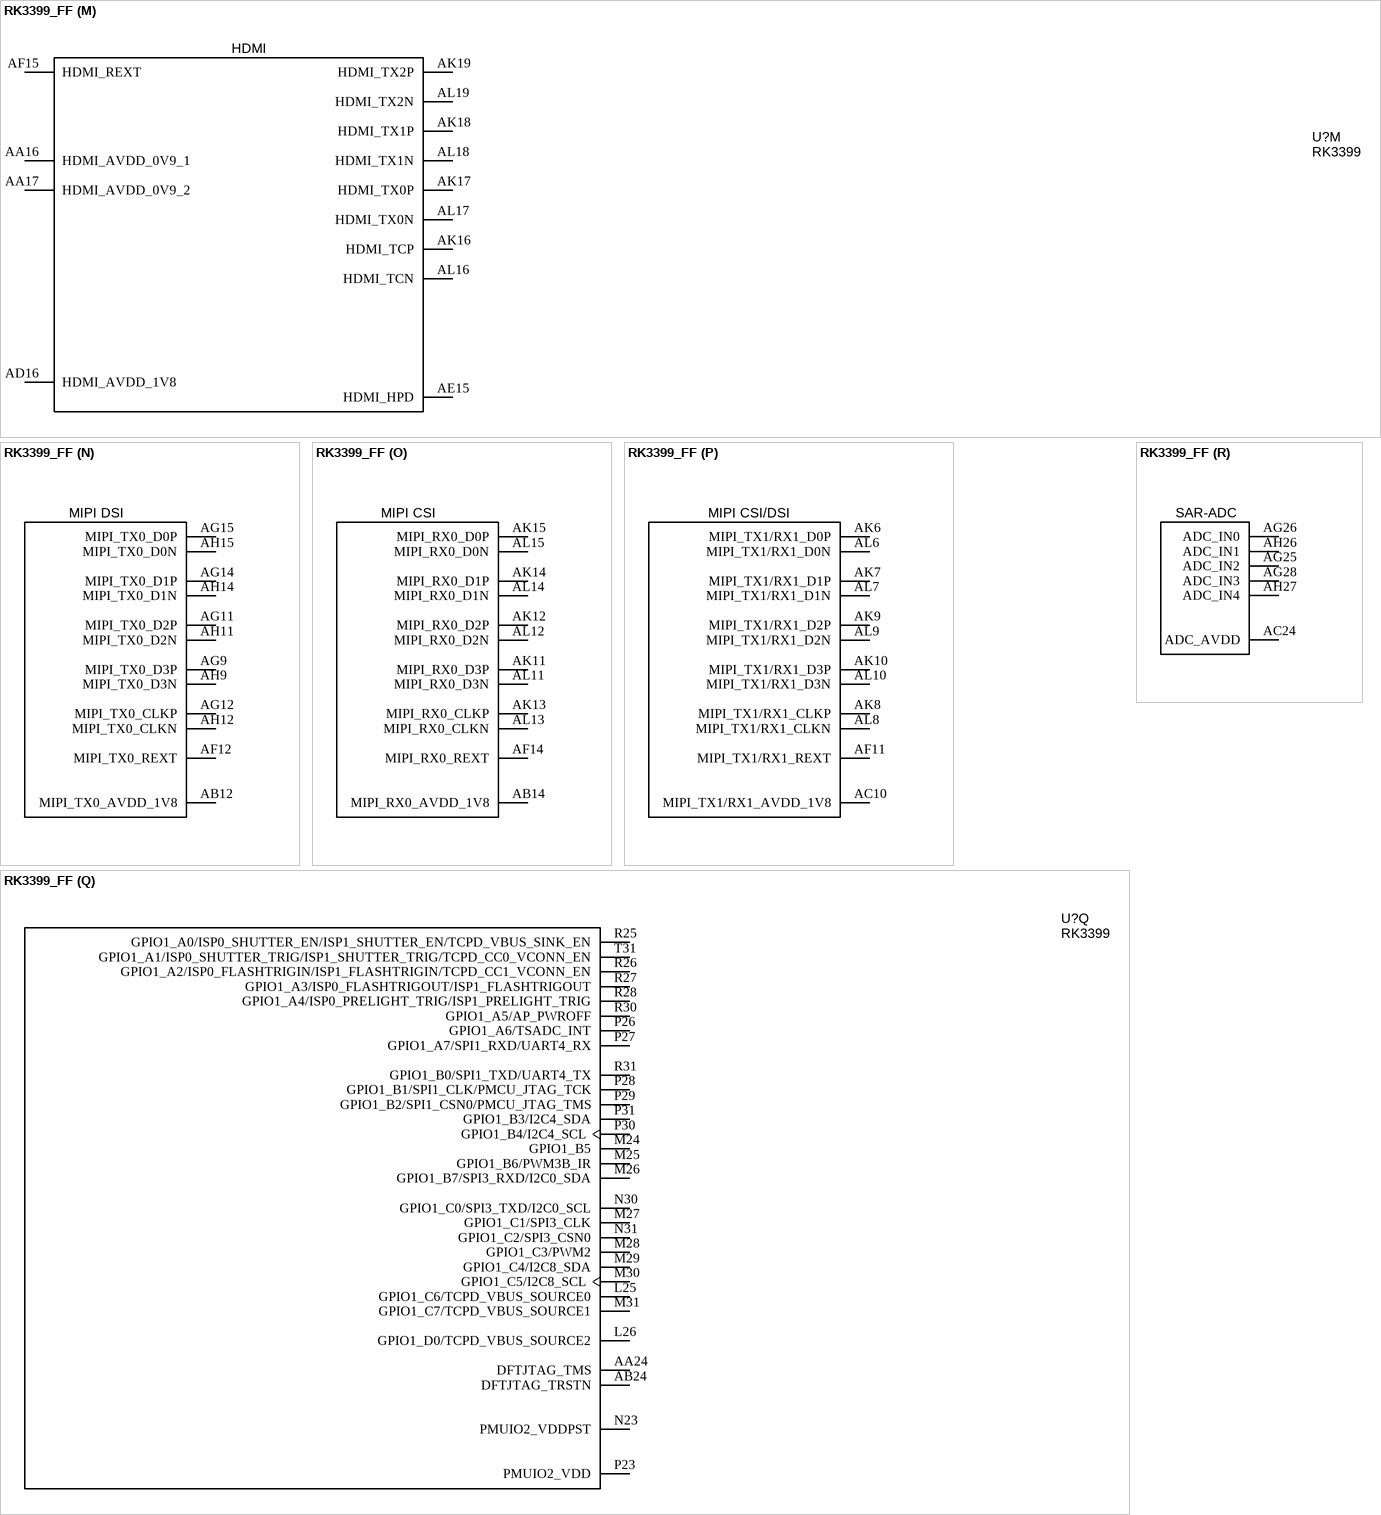
[diagram p11: symbol RK3399_FF]

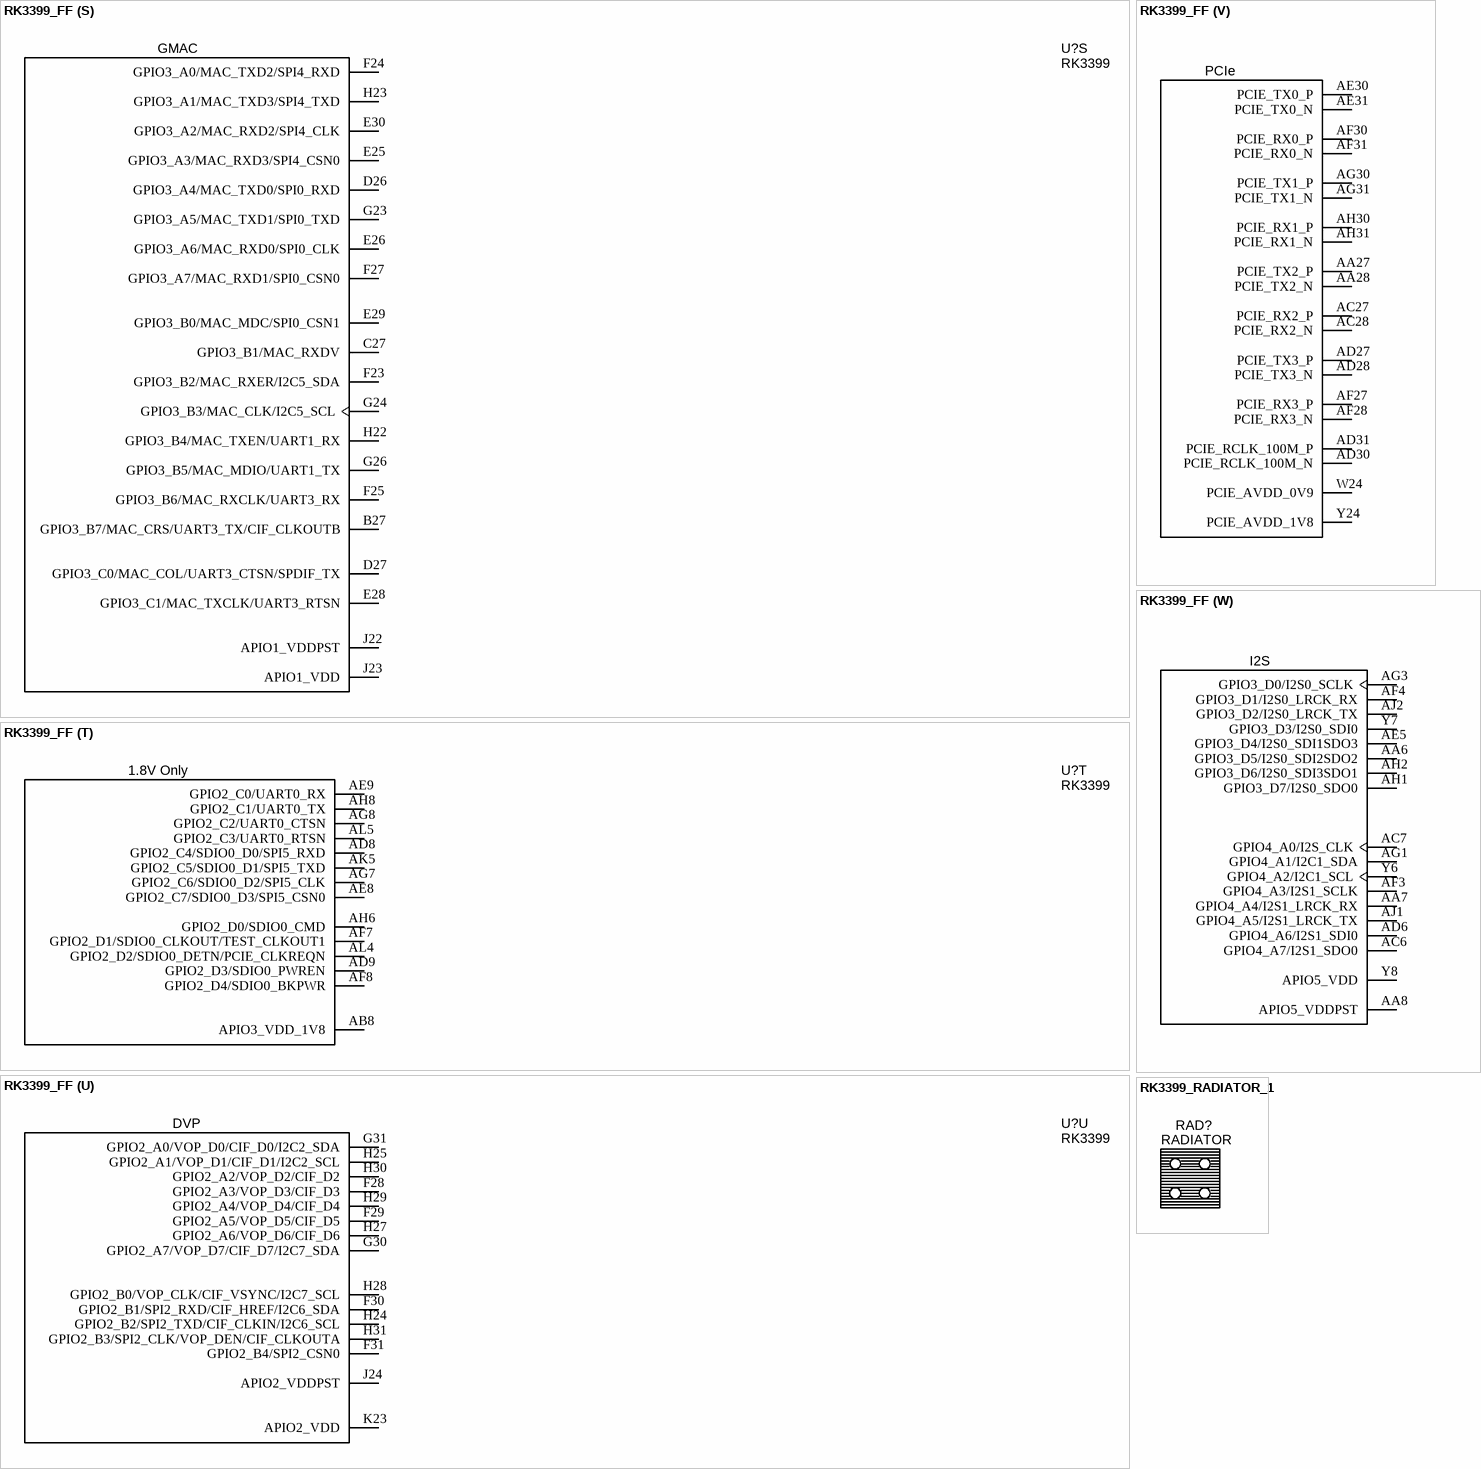
[diagram p12: symbols RK3399_FF to RK3399_RADIATOR_1]